# Altium schematic symbol library Schlib1.SchLib: 117 symbols
Pins are listed as number, name and electrical type; pins without a type are passive.

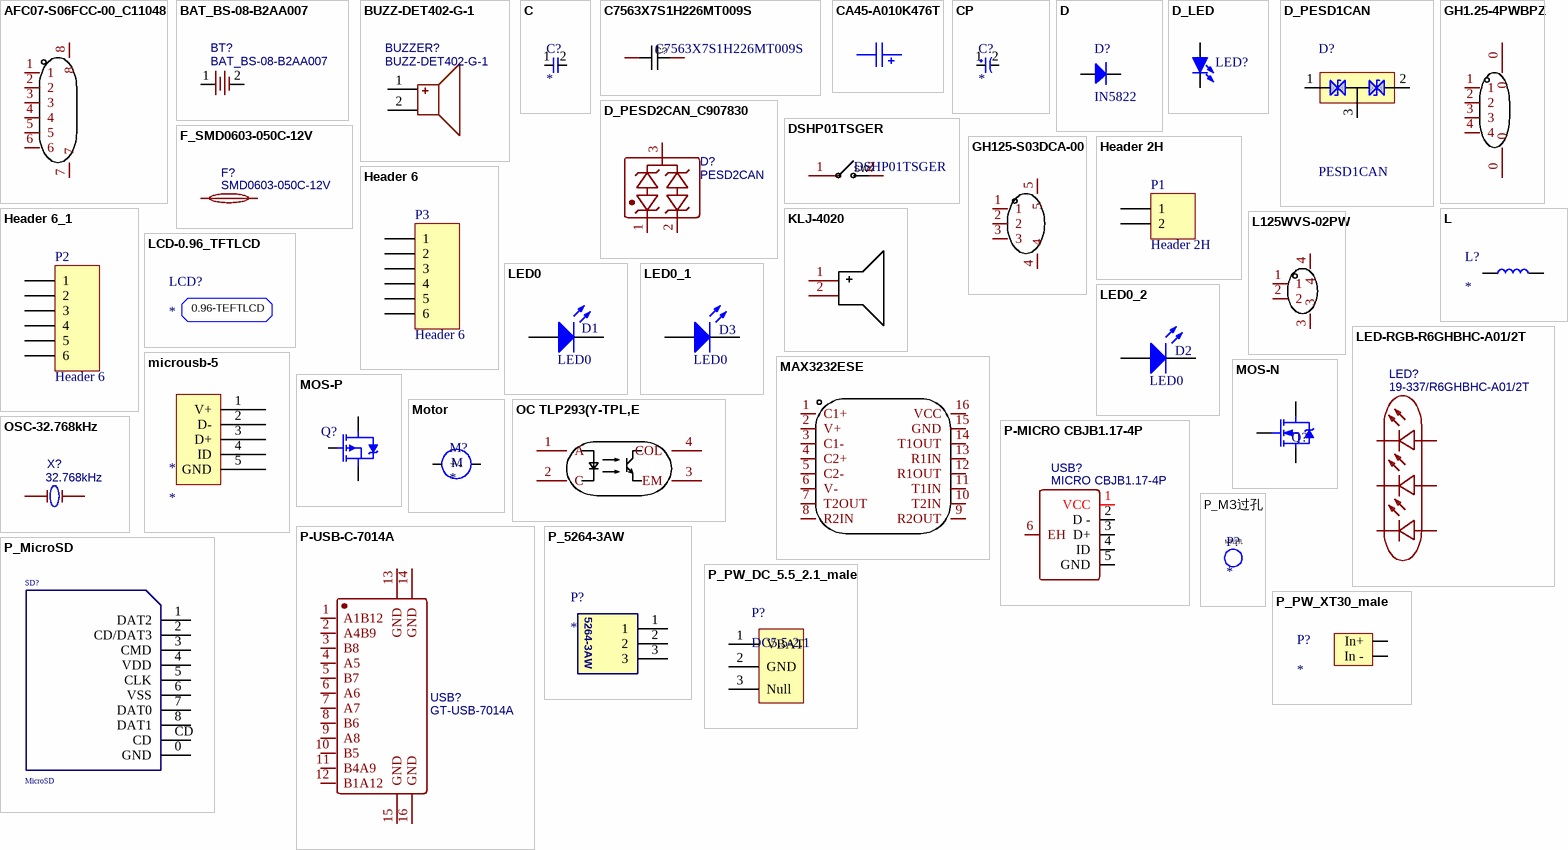
[diagram p0: symbols AFC07-S06FCC-00_C11048 to P_PW_XT30_male]

## AFC07-S06FCC-00_C11048
designator FPC?  (value not drawn)
Manufacturer: JS(钜硕电子); Symbol: FPC 0.5MM 6P Pull type H2.0mm Under the next; Add into BOM: yes; Pitch: 0.5mm; Number of Contacts: 6P; Locking Feature: 抽屉式; FFC, FCB Thickness: 0.3mm; Name: AFC07-S06FCC-00; Device: AFC07-S06FCC-00_C11048; LCSC Part Name: 0.5mm P数:6P 抽屉式 下接; Supplier Part: C11048; Manufacturer Part: AFC07-S06FCC-00; Supplier Footprint: SMD,P=0.5mm; JLCPCB Part Class: Extended Part; Datasheet: https://atta.szlcsc.com/upload/public/pdf/source/20190717/C405328_807FA67B3F1B55207D2BA590F8028B61.pdf; Supplier: LCSC; Convert to PCB: yes; Mounting Type: 卧贴; Contact Type: 下接; Height Above Board: 2mm
footprint FPC-SMD_P0.50-6P_LSSJ-H2.0-6P
3D model FPC-SMD_P0.50-6P_LSSJ-L8.6-W5.4-H2.0-6P
pins: 1, 2, 3, 4, 5, 6, 7, 8

## BAT_BS-08-B2AA007
designator BT?
BOM_Manufacturer: MYOUNG(美阳); Contributor: LCSC; BOM_Supplier: LCSC; BOM_Supplier Part: C964784; BOM_Manufacturer Part: BS-08-B2AA007; BOM_JLCPCB Part Class: Extended Part; spicePre: B; spiceSymbolName: BS-08-B2AA007
footprint BAT-SMD_BS-08-B2BA004
pins: 1, 2

## BUZZ-DET402-G-1
designator BUZZER?
BOM_Manufacturer: FUET(福声科技); BOM_Manufacturer Part: FUET-1580-12; Contributor: LCSC; BOM_Supplier: LCSC; BOM_Supplier Part: C2690508; BOM_JLCPCB Part Class: Extended Part; spicePre: B; spiceSymbolName: FUET-1580-12
footprint DET402-G-1
pins: 1, 2

## C
designator C?
pins: 1 "Supply Voltage", 2 "Supply Voltage"

## C7563X7S1H226MT009S
designator C?
电容22uF ±20% 50V; Manufacturer: TDK; Name: 22uF; Add into BOM: yes; Value: 22uF; Temperature Coefficient: X7S; Symbol: C7563X7S1H226MT009S; Device: C7563X7S1H226MT009S; LCSC Part Name: 22uF ±20% 50V; Supplier Part: C508864; Manufacturer Part: C7563X7S1H226MT009S; Supplier Footprint: 3025; JLCPCB Part Class: Extended Part; Datasheet: https://atta.szlcsc.com/upload/public/pdf/source/20191108/C445712_D1F852F93ABDD3ED8B3146A3596EBE59.pdf; Supplier: LCSC; Convert to PCB: yes; Tolerance: ±20%; Voltage Rated: 50V
footprint CAP-SMD_L7.5-W6.3
3D model CAP-SMD_L7.5-W6.3
pins: 1, 2

## CA45-A010K476T
designator C?  (value not drawn)
Manufacturer: 湘怡中元/湘江; Name: 47uF; Add into BOM: yes; Value: 47uF; Tolerance: ±10%; Rated Voltage: 10V; Equivalent Series Resistance(ESR): 2Ω@100kHz; Symbol: CA45-A010K476T; Device: CA45-A010K476T; LCSC Part Name: 47uF ±10% 10V; Supplier Part: C127069; Manufacturer Part: CA45-A010K476T; Supplier Footprint: CASE-A-3216; JLCPCB Part Class: Extended Part; Datasheet: https://atta.szlcsc.com/upload/public/pdf/source/20181017/C127069_BC3AE869F8CE910D5EF82C163F68D29E.pdf; Supplier: LCSC; Convert to PCB: yes; Operating Temperature: -55℃~+125℃
footprint CASE-A_3216
3D model CASE-A_L3.2-W1.6-H1.6
pins: 1, 2

## CP
designator C?
极性电容 / 多为大容量铝电解
pins: 1 "Supply Voltage", 2 "Supply Voltage"

## D
designator D?, comment IN5822
Default Diode; Published: 8-Jun-2000; LatestRevisionDate: 17-Jul-2002; LatestRevisionNote: Re-released for DXP Platform.; PackageVersion: Sep-1996; PackageReference: SMC; Publisher: Altium Limited; PackageDescription: DO-214-AB/SMC; 2 C-Bend Leads; Body 7.9 x 5.9 mm, inc. leads (LxW); Code_JEDEC: DO-214-AB
simulation model DIODE (Diode)
signal-integrity model Diode
footprint SMB (DO-214-AA/SMB; 2 C-Bend Leads; Body 5.3 x 3.6 mm, inc. leads (LxW))
pins: 1 A, 2 K

## D_LED
designator LED?
贴片LED; 版权归属: 黎明电子style; BOM名称: 贴片LED; 学习资源: https://lmdzstyle.taobao.com/
footprint LED 0603W (白色0603LED)
footprint LED 0603R (红色0603LED)
footprint LED 0603B (蓝色0603LED)
footprint LED 0603G (绿色0603LED)
footprint LED 0603Y (黄色0603LED)
footprint LED 0805G (绿色0805LED)
footprint PCBComponent_1
footprint LED 0805B (蓝色0805LED)
footprint LED 0805Y (黄色0805LED)
footprint LED 3528 (白色3528LED)
footprint LED 1206G (绿色1206LED)
footprint LED 5730-V (紫色5730LED)
footprint LED 1206Y (黄色1206LED)
footprint LED 0805W (白色0805LED)
footprint LED 1206B (蓝色1206LED)
footprint LED 1206W (白色1206LED)
footprint LED 1206R (红色1206LED)
pins: 1 A, 2 K

## D_PESD1CAN
designator D?, comment PESD1CAN
pins: 1 cathode 1, 2 cathode 2, 3 GND

## D_PESD2CAN_C907830
designator D?, comment PESD2CAN
BOM_Manufacturer: TECH PUBLIC; Contributor: LCSC; BOM_Supplier: LCSC; BOM_Supplier Part: C907830; BOM_Manufacturer Part: PESD2CAN; BOM_JLCPCB Part Class: Extended Part; spicePre: D; spiceSymbolName: PESD2CAN_C907830
footprint SOT-23-3_L2.9-W1.3-P1.90-LS2.4-BR
pins: 1, 2, 3

## DSHP01TSGER
designator SW?
1.27mm开关; Manufacturer: 康深; Add into BOM: yes; Name: DSHP01TSGER; Symbol: DSHP01TSGER; Device: DSHP01TSGER; LCSC Part Name: 1位单PIN 1.27mm间距贴片型 KE拨码开关 编码开关; Supplier Part: C3293141; Manufacturer Part: DSHP01TSGER; Supplier Footprint: SMD,2.9x5.4mm; JLCPCB Part Class: Extended Part; Datasheet: https://atta.szlcsc.com/upload/public/pdf/source/20220713/BDDC0447A52B6A23E8804DA200FD4C7C.pdf; Supplier: LCSC; Convert to PCB: yes
footprint SW-SMD_DSHP01TSGER
3D model SW-SMD_DSHP01TSGER
pins: 1, 2

## F_SMD0603-050C-12V
designator F?, comment SMD0603-050C-12V
BOM_Manufacturer: BNstar(比诺星); Contributor: LCSC; BOM_Supplier: LCSC; BOM_Supplier Part: C2760256; BOM_Manufacturer Part: SMD0603-050C-12V; BOM_JLCPCB Part Class: Extended Part; spicePre: F; spiceSymbolName: SMD0603-050C-12V
footprint F0603
pins: 1, 2

## GH1.25-4PWBPZ
designator U?  (value not drawn)
Manufacturer: BOOMELE(博穆精密); Add into BOM: yes; Name: GH1.25-4PWBPZ; Symbol: GH1.25-4PWBPZ; Device: GH1.25-4PWBPZ; LCSC Part Name: GH1.25-4P卧贴编带; Supplier Part: C2829253; Manufacturer Part: GH1.25-4PWBPZ; Supplier Footprint: -; JLCPCB Part Class: Extended Part; Datasheet: https://atta.szlcsc.com/upload/public/pdf/source/20211125/08A09A4909F58AF780B71FE423A00F7E.pdf; Supplier: LCSC; Convert to PCB: yes
footprint CONN-SMD_GH1.25-4PWBPZ
3D model CONN-SMD_GH1.25-4PWBPZ
pins: 0, 0, 1, 2, 3, 4

## GH125-S03DCA-00
designator X?  (value not drawn)
Manufacturer: JS(钜硕电子); Add into BOM: yes; Pitch: 1.25mm; Pins Structure: 1x3P; Number of PINs Per Row: 3; Gender: 公型插针; Current Rating (Max): 1A; Name: GH125-S03DCA-00; Symbol: GH125-S03DCA-00; Device: GH125-S03DCA-00; LCSC Part Name: GH1.25卧式贴片 带扣; Supplier Part: C2886766; Manufacturer Part: GH125-S03DCA-00; Supplier Footprint: SMD,P=1.25mm; JLCPCB Part Class: Extended Part; Datasheet: https://atta.szlcsc.com/upload/public/pdf/source/20210818/CD11791E5ED3EDF45A7009E9C8A2BD4C.pdf; Supplier: LCSC; Convert to PCB: yes; Reference Series: -; Number of Rows: 1; Row Spacing: -; Mounting Style: 卧贴; Operating Temperature Range: -25℃~+85℃
footprint CONN-SMD_3P-P1.25_JUSHUO_GH125-S03DCA-00
3D model CONN-SMD_3P-P1.25_JUSHUO_GH125-S03DCA-00
pins: 1, 2, 3, 4, 5

## Header 2H
designator P1
Header, 2-Pin, Right Angle; LatestRevisionDate: 17-Jul-2002; LatestRevisionNote: Re-released for DXP Platform.; Publisher: Altium Limited
signal-integrity model Connector
footprint P-PH2.0-WI-2P (长：5.9mm，宽：6mm，高：4.7mm)
pins: 1, 2

## Header 6
designator P3
Header, 6-Pin; LatestRevisionDate: 17-Jul-2002; LatestRevisionNote: Re-released for DXP Platform.; Publisher: Altium Limited
signal-integrity model Connector
footprint P-PH2.0-WI-6P (长：13.9mm，宽：6mm，高：4.7mm)
pins: 1, 2, 3, 4, 5, 6

## Header 6_1
designator P2, comment Header 6
Header, 6-Pin; LatestRevisionDate: 17-Jul-2002; LatestRevisionNote: Re-released for DXP Platform.; Publisher: Altium Limited
signal-integrity model Connector
footprint BM06B-GHS-TBT
pins: 1, 2, 3, 4, 5, 6

## KLJ-4020
designator BUZZER?  (value not drawn)
Manufacturer: KELIKING(凯丽金); Name: 4kHz; Add into BOM: yes; Rated Voltage: 3V; Operating Voltage: 2V~4V; Current Consumption: 100mA; Value: 4kHz; Sound Pressure Level (SPL): 73dB@10cm; Symbol: KLJ-4020; Device: KLJ-4020; LCSC Part Name: 贴片蜂鸣器; Supplier Part: C556936; Manufacturer Part: KLJ-4020; Supplier Footprint: SMD,4x4mm; JLCPCB Part Class: Extended Part; Datasheet: https://atta.szlcsc.com/upload/public/pdf/source/20200519/C556936_56209A4E02A9DC2ACA23224C4D5F7090.pdf; Supplier: LCSC; Convert to PCB: yes; Oscillator Circuit: -; Technology Type: -; Diameter (φD): -; Length: 4mm; Width: 4mm; Height: 2mm; Operating Temperature: -30℃~+70℃
footprint BUZ-SMD_L4.0-W4.0-P3.50-L
3D model BUZ-SMD_2P-L4.0-W4.0-H2.0
pins: 1 +, 2 -

## L
designator L?
INDUCTOR
footprint AL0204 (9*2*4mm（脚距，直径，长度）)
footprint AL0204_V (3*2*4mm（脚距，直径，长度）)
footprint AL0307 (11*3*7mm（脚距，直径，长度）)
footprint AL0307_V (3.5*3*7mm（脚距，直径，长度）)
footprint AL0410 (15*4*10.5mm（脚距，直径，长度）)
footprint AL0410_V (5*4*10.5mm（脚距，直径，长度）)
footprint AL0510 (16*5*10.5mm（脚距，直径，长度）)
footprint AL0510_V (6*5*10.5mm（脚距，直径，长度）)
footprint CD31 (3.5*3*1mm（长宽高）)
footprint CD32 (3.5*3*2mm（长宽高）)
footprint CD42 (4.5*4*2mm（长宽高）)
footprint CD43 (4.5*4*3.2mm（长宽高）)
footprint CD52 (5.8*5.2*3mm（长宽高）)
footprint CD53 (5.8*5.2*3.5mm（长宽高）)
footprint CD54 (5.8*5.2*4.5mm（长宽高）)
footprint CD75 (7.8*7*5mm（长宽高）)
footprint CD104 (10*9*4mm（长宽高）)
footprint CD105 (10*9*5.4mm（长宽高）)
footprint CD106 (10*9*6.5mm（长宽高）)
footprint CDRH73 (7.3*7.3*3.4mm（长宽高）)
footprint CDRH74 (7.3*7.3*4.5mm（长宽高）)
footprint CDRH124 (12*12*4.5mm（长宽高）)
footprint CDRH125 (12*12*5mm（长宽高）)
footprint CDRH127 (12*12*8mm（长宽高）)
footprint CDRH129 (12*12*9.5mm（长宽高）)
footprint L 0630 (一体化成型电感)
footprint NR3015 (3mm*3mm*1.5mm(长*宽*高）)
footprint PK0406 (2*5*8mm(脚距，直径，高）)
footprint PK0608 (2.5*7*10mm(脚距，直径，高）)
footprint PK0810 (5*9*12mm(脚距，直径，高）)
footprint PK0912 (6*10*14mm(脚距，直径，高）)
footprint PK1012 (6*11*14mm(脚距，直径，高）)
footprint PK1415 (7.5*15*17mm(脚距，直径，高）)
footprint PK1618 (12.5*17*20mm(脚距，直径，高）)
footprint PK1818 (15*19*20mm(脚距，直径，高）)
footprint 0402L (小功率贴片电感)
footprint 0603L (小功率贴片电感)
footprint 0630L (一体化成型电感)
footprint 0805L (小功率贴片电感)
footprint 1210L (小功率贴片电感)
footprint Model Name (Model Description)
footprint 1806L (小功率贴片电感)
footprint 1812L (小功率贴片电感)
pins: 1, 2

## L125WVS-02PW
designator CN?  (value not drawn)
Manufacturer: DEALON(德艺隆); Add into BOM: yes; Pitch: 1.25mm; Pins Structure: 1x2P; Number of PINs Per Row: 2; Gender: 公型插针; Current Rating (Max): 1A; Name: L125WVS-02PW; Symbol: L125WVS-02PW; Device: L125WVS-02PW; LCSC Part Name: 1.25mm 1x2P 卧贴 GH1.25间距卧式贴片 2P 连接器; Supplier Part: C2998790; Manufacturer Part: L125WVS-02PW; Supplier Footprint: SMD,P=1.25mm; JLCPCB Part Class: Extended Part; Datasheet: https://atta.szlcsc.com/upload/public/pdf/source/20220425/50B09E6409C3A2782C6D65104D18E34A.pdf; Supplier: LCSC; Convert to PCB: yes; Number of Rows: 1; Mounting Style: 卧贴; Operating Temperature Range: -40℃~+110℃
footprint CONN-SMD_2P-P1.25_DELON_L125WVS-02PW
3D model CONN-SMD_2P-P1.25_DELON_L125WVS-02PW
pins: 1, 2, 3, 4

## LCD-0.96_TFTLCD
designator LCD?
footprint TFTLCD-0.96-80*160
text: 0.96-TEFTLCD

## LED0
designator D1
Typical INFRARED GaAs LED; Published: 8-Jun-2000; LatestRevisionDate: 08-Jul-2005; LatestRevisionNote: Mech Layer 1 removed.; PackageReference: LED-0; Publisher: Altium Limited; PackageDescription: LED; 2 Leads
simulation model LED0 (Diode)
footprint LED 0805 (红色0805LED)
pins: 1 A, 2 K

## LED0_1
designator D3, comment LED0
Typical INFRARED GaAs LED; Published: 8-Jun-2000; LatestRevisionDate: 08-Jul-2005; LatestRevisionNote: Mech Layer 1 removed.; PackageReference: LED-0; Publisher: Altium Limited; PackageDescription: LED; 2 Leads
simulation model LED0 (Diode)
footprint LED 0805 (红色0805LED)
pins: 1 A, 2 K

## LED0_2
designator D2, comment LED0
Typical INFRARED GaAs LED; Published: 8-Jun-2000; LatestRevisionDate: 08-Jul-2005; LatestRevisionNote: Mech Layer 1 removed.; PackageReference: LED-0; Publisher: Altium Limited; PackageDescription: LED; 2 Leads
simulation model LED0 (Diode)
footprint LED 0805 (红色0805LED)
pins: 1 A, 2 K

## LED-RGB-R6GHBHC-A01/2T
designator LED?, comment 19-337/R6GHBHC-A01/2T
C264519; BOM_Manufacturer: Everlight Elec; Contributor: LCSC; BOM_Supplier: LCSC; BOM_Supplier Part: C264519; BOM_Manufacturer Part: 19-337/R6GHBHC-A01/2T; BOM_JLCPCB Part Class: Extended Part; spicePre: L; spiceSymbolName: 19-337/R6GHBHC-A01/2T
footprint LED-ARRAY-SMD_6P-L1.6-W1.6-TL
pins: 1 -B, 2 -R, 3 -G, 4 +B, 5 +R, 6 +G

## MAX3232ESE
designator U6  (value not drawn)
RS232转换芯片; Manufacturer: UMW(广东友台半导体); Add into BOM: yes; Name: MAX3232ESE; Symbol: MAX3232ESE; Device: MAX3232ESE; LCSC Part Name: MAX3232ESE; Supplier Part: C2904738; Manufacturer Part: MAX3232ESE; Supplier Footprint: SOP-16; JLCPCB Part Class: Extended Part; Datasheet: https://atta.szlcsc.com/upload/public/pdf/source/20220325/F1EFC1CE5DFDF5432C655A6CD0D8EF2A.pdf; Supplier: LCSC; Convert to PCB: yes
footprint SOP-16_L9.9-W3.9-P1.27-LS6.0-BL
3D model SOP-16_L9.9-W3.9-P1.27-LS6.0-BL
pins: 1 C1+, 2 V+, 3 C1-, 4 C2+, 5 C2-, 6 V-, 7 T2OUT, 8 R2IN, 9 R2OUT, 10 T2IN, 11 T1IN, 12 R1OUT, 13 R1IN, 14 T1OUT, 15 GND, 16 VCC

## microusb-5
designator *
footprint microusb-5
pins: 1 V+, 2 D-, 3 D+, 4 ID, 5 GND

## MOS-N
designator Q?
N沟道场效应管
footprint SOT23
pins: D, G, S

## MOS-P
designator Q?
P沟道场效应管
pins: D, G, S

## Motor
designator M?
pins: 29 +, 30 -
text: M

## OC TLP293(Y-TPL,E
designator OC?, comment TLP293(Y-TPL,E  (value not drawn)
C194122; Manufacturer: TOSHIBA(东芝); Add into BOM: yes; Input voltage type: DC; Output Type: 光电三极管; Number of Outputs: 1; Forward Voltage: 1.25V; Output Current: 50mA; Receiving End Voltage: 80V; Collector-Emitter Saturation Voltage (Vce(sat)@Ic,IF): 300mV@2.4mA,8mA; Rise time: 2us@2mA,100Ω; Fall time: 3us@2mA,100Ω; Isolation Voltage(rms): 3.75kV; Name: TLP293(Y-TPL,E; Symbol: TLP293(Y-TPL,E; Device: TLP293(Y-TPL,E; LCSC Part Name: TLP293(Y-TPL,E; Supplier Part: C194122; Manufacturer Part: TLP293(Y-TPL,E; Supplier Footprint: SOP-4; JLCPCB Part Class: Extended Part; Datasheet: https://atta.szlcsc.com/upload/public/pdf/source/20180629/C194122_DED1EA08415CD9D71B3300DA4044A311.pdf; Supplier: LCSC; Convert to PCB: yes; Reverse Voltage: -; Operating Temperature: -55℃~+125℃
footprint SOP-4_L4.4-W2.8-P1.27-LS7.0-BR
3D model SOP-4_L2.7-W4.6-H2.1-LS7.0-P1.27
pins: 1 A, 2 C, 3 EM, 4 COL

## OSC-32.768kHz
designator X?, comment 32.768kHz
负载为12.5pF; BOM_Manufacturer Part: X206032768KGA2SC; BOM_Manufacturer: YXC; nameAlias: Frequency; BOM_Supplier: LCSC; BOM_Supplier Part: C13712; BOM_JLCPCB Part Class: Extended Part; spicePre: X; spiceSymbolName: X206032768KGA2SC
footprint OSC-TH_BD2.0-P0.70-D0.3
pins: 1 OSC1, 2 OSC2

## P-MICRO CBJB1.17-4P
designator USB?, comment MICRO CBJB1.17-4P
BOM_Manufacturer: SHOU HAN; Contributor: LCSC; BOM_Supplier: LCSC; BOM_Supplier Part: C456009; BOM_Manufacturer Part: MICRO CBJB1.17-4P; BOM_JLCPCB Part Class: Extended Part; spicePre: U; spiceSymbolName: MICRO CBJB1.17-4P
footprint P-MINI-USB-SMD_CBJB1.17-4P
pins: 1 VCC, 2 D -, 3 D+, 4 ID, 5 GND, 6 EH

## P-USB-C-7014A
designator USB?, comment GT-USB-7014A
BOM_Manufacturer: G-Switch(品赞); Contributor: LCSC; BOM_Supplier: LCSC; BOM_Supplier Part: C963371; BOM_Manufacturer Part: GT-USB-7014A; BOM_JLCPCB Part Class: Extended Part; spicePre: U; spiceSymbolName: GT-USB-7014A
pins: 1 A1B12, 2 A4B9, 3 B8, 4 A5, 5 B7, 6 A6, 7 A7, 8 B6, 9 A8, 10 B5, 11 B4A9, 12 B1A12, 13 GND, 14 GND, 15 GND, 16 GND

## P_5264-3AW
designator P?
footprint P CONN-TH_5264-3AW
pins: 1, 2, 3
text: 5264-3AW

## P_M3过孔
designator P?
footprint P_M3过孔
text: M3过孔

## P_MicroSD
designator SD?, comment MicroSD
footprint P_TF Card
pins: 0 GND, 1 DAT2 "片选/负有效", 2 CD/DAT3 "数据输入", 3 CMD "地", 4 VDD, 5 CLK, 6 VSS, 7 DAT0, 8 DAT1, CD

## P_PW_DC_5.5_2.1_male
designator P?, comment DC5.5-2.1
footprint P_DC-050-5.5*2.1_贴片 (5.5*2.1)
pins: 1 VBAT, 2 GND, 3 Null

## P_PW_XT30_male
designator P?
XT30_pw_m / XT30母头电源输入
footprint XT30
pins: 1 In+, 2 In -

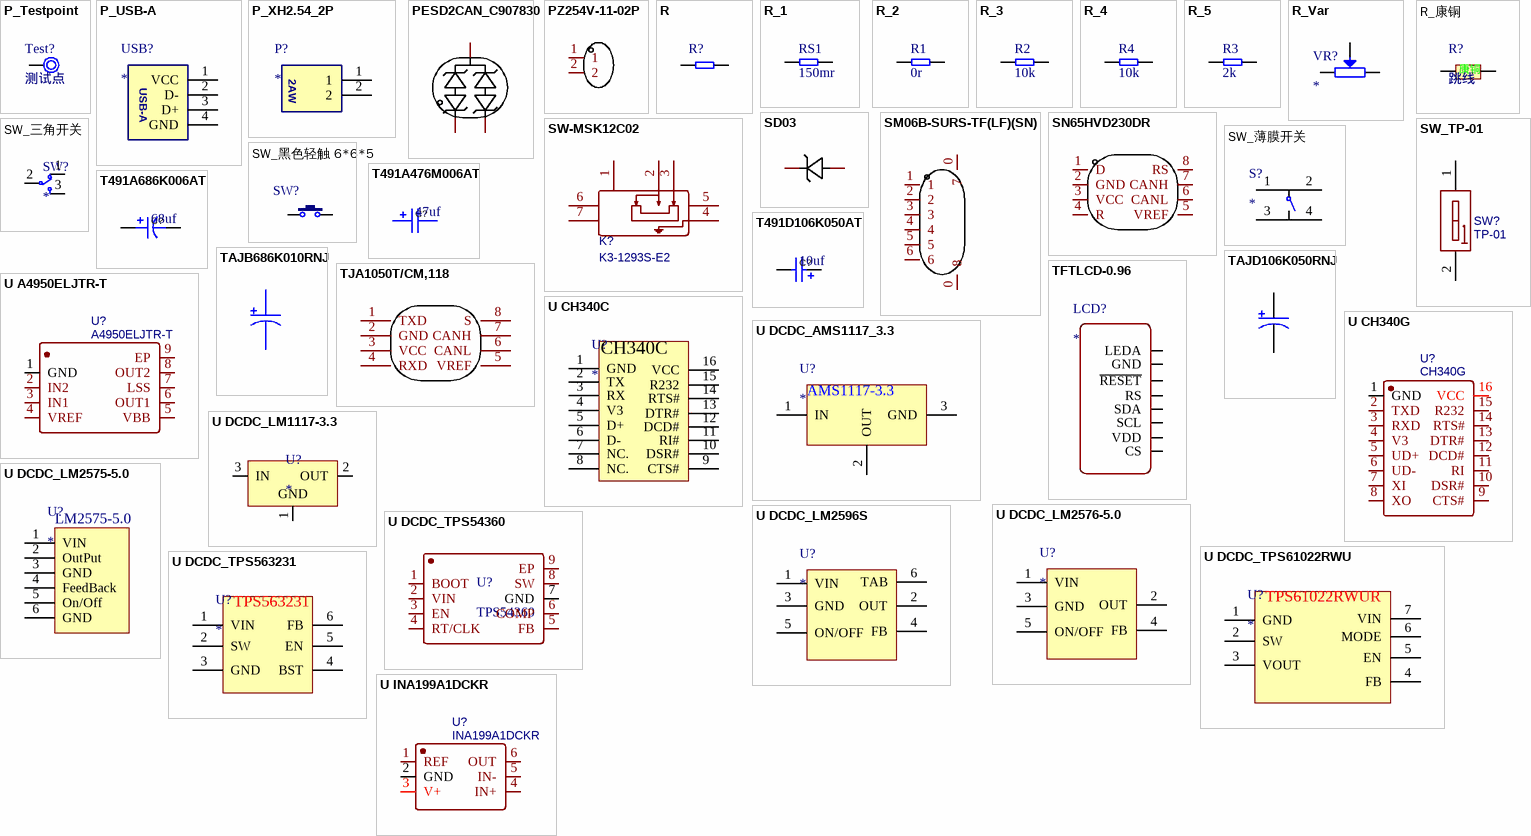
[diagram p1: symbols P_Testpoint to U INA199A1DCKR]

## P_Testpoint
designator Test?, comment 测试点
pins: 1

## P_USB-A
designator USB?
footprint P-USB-A-SMD_905-761A2022S10203 (C2763021)
pins: 1 VCC, 2 D-, 3 D+, 4 GND

## P_XH2.54_2P
designator P?
footprint P-XH2/2.54mm/90
pins: 1, 2
text: 2AW

## PESD2CAN_C907830
designator D?  (value not drawn)
PESD2CAN静电esd保护件; Manufacturer: TECH PUBLIC(台舟); Add into BOM: yes; Name: PESD2CAN; Symbol: PESD2CAN_C907830; Device: PESD2CAN_C907830; LCSC Part Name: PESD2CAN; Supplier Part: C907830; Manufacturer Part: PESD2CAN; Supplier Footprint: SOT23-3; JLCPCB Part Class: Extended Part; Datasheet: https://atta.szlcsc.com/upload/public/pdf/source/20201020/C907830_A4D1E6D0B6BD1253ACE8F8FC946B1D04.pdf; Supplier: LCSC; Convert to PCB: yes
footprint SOT-23-3_L2.9-W1.3-P1.90-LS2.4-BR
3D model SOT-23-3P_L2.9-W1.3-H1.0-LS2.4-P0.95
pins: 1, 2, 3

## PZ254V-11-02P
designator H?  (value not drawn)
Manufacturer: XFCN(兴飞); Add into BOM: yes; Pitch: 2.54mm; Pin Structure: 1x2P; Circluar Pins/Square Pins: 方针; Name: PZ254V-11-02P; Symbol: PZ254V-11-02P; Device: PZ254V-11-02P; LCSC Part Name: 2.54mm 1x2P 直插 方针; Supplier Part: C492401; Manufacturer Part: PZ254V-11-02P; Supplier Footprint: 插件,P=2.54mm; JLCPCB Part Class: Extended Part; Datasheet: https://atta.szlcsc.com/upload/public/pdf/source/20200309/C492401_A812433581A9B211A7FFA413ADDFF0E5.pdf; Supplier: LCSC; Convert to PCB: yes; Number of Rows: 单排; Number of Pins: 2P; Row Spacing: -; Mounting Type: 直插; Current Rating (Max): -; Voltage Rating (Max): -; Length of Mating Pin: 6mm; Insulation Height: 2.5mm; Length of End Connection Pin: 3mm; Contact Material: 黄铜; Contact Plating: -; Operating Temperature Range: -40℃~+105℃; Color: 黑色
footprint HDR-TH_2P-P2.54-V-M
3D model HDR2.54-M-LI-1X2P
pins: 1, 2

## R
designator R?
贴片电阻; 版权归属: 黎明电子style; BOM名称: 贴片电阻; 学习资源: https://lmdzstyle.taobao.com/
footprint R 0805_M (1/8W贴片电阻)
pins: 1, 2

## R_1
designator RS1, comment 150mr
贴片电阻; 版权归属: 黎明电子style; BOM名称: 贴片电阻; 学习资源: https://lmdzstyle.taobao.com/
footprint R1206_M
pins: 1, 2

## R_2
designator R1, comment 0r
贴片电阻; 版权归属: 黎明电子style; BOM名称: 贴片电阻; 学习资源: https://lmdzstyle.taobao.com/
footprint R0603_M
pins: 1, 2

## R_3
designator R2, comment 10k
贴片电阻; 版权归属: 黎明电子style; BOM名称: 贴片电阻; 学习资源: https://lmdzstyle.taobao.com/
footprint R0603_M
pins: 1, 2

## R_4
designator R4, comment 10k
贴片电阻; 版权归属: 黎明电子style; BOM名称: 贴片电阻; 学习资源: https://lmdzstyle.taobao.com/
footprint R0603_M
pins: 1, 2

## R_5
designator R3, comment 2k
贴片电阻; 版权归属: 黎明电子style; BOM名称: 贴片电阻; 学习资源: https://lmdzstyle.taobao.com/
footprint R0603_M
pins: 1, 2

## R_Var
designator VR?
footprint 3296W
footprint 3362P
footprint 3362S
footprint 微调卧式蓝白电位器
pins: 1, 2, 3

## R_康铜
designator R?, comment 跳线
pins: 0, 1
text: 康铜

## SD03
designator D?  (value not drawn)
TVS3.3截止; Manufacturer: MDD; Symbol: SD03_C502526; Add into BOM: yes; Reverse Stand-Off Voltage (Vrwm): 3.3V; Breakdown Voltage: 4V; Peak Pulse Current (Ipp)@10/1000us: 20A; Maximum Clamping Voltage: 14V; Name: SD03; Device: SD03; LCSC Part Name: 单向TVS 3.3V截止 20A峰值脉冲; Supplier Part: C502526; Manufacturer Part: SD03; Supplier Footprint: SOD-323; JLCPCB Part Class: Extended Part; Datasheet: https://atta.szlcsc.com/upload/public/pdf/source/20200324/C502526_6D92D06B51C211BBF0D6BD94672586B0.pdf; Supplier: LCSC; Convert to PCB: yes
footprint SOD-323_L1.8-W1.3-LS2.5-RD
3D model SOD-323_L1.7-W1.3-H1.1-LS2.5
pins: 1 C, 2 A

## SM06B-SURS-TF(LF)(SN)
designator P?  (value not drawn)
Manufacturer: JST; Add into BOM: yes; Pitch: 0.8mm; Pins Structure: 1x6P; Number of PINs Per Row: 6; Gender: 公型插针; Current Rating (Max): 200mA; Name: SM06B-SURS-TF(LF)(SN); Symbol: SM06B-SURS-TF(LF)(SN); Device: SM06B-SURS-TF(LF)(SN); LCSC Part Name: 间距:0.8mm 1x6P 卧贴; Supplier Part: C495545; Manufacturer Part: SM06B-SURS-TF(LF)(SN); Supplier Footprint: SMD,P=0.8mm; JLCPCB Part Class: Extended Part; Datasheet: https://atta.szlcsc.com/upload/public/pdf/source/20200311/C495545_E72935403D1EB49F793AD89C21E66448.pdf; Supplier: LCSC; Convert to PCB: yes; Reference Series: -; Number of Rows: 1; Row Spacing: -; Mounting Style: 卧贴; Contact Material: 铜合金; Contact Plating: 锡; Operating Temperature Range: -25℃~+85℃
footprint CONN-SMD_SM06B-SURS-TF-LF-SN
3D model CONN-SMD_SM06B-SURS-TF(LF)(SN)
pins: 0 8, 0 7, 1, 2, 3, 4, 5, 6

## SN65HVD230DR
designator U?  (value not drawn)
can芯片vp230; Manufacturer: TI(德州仪器); Add into BOM: yes; Data Rate: 1Mbps; Supply Voltage: 3V~3.6V; Name: SN65HVD230DR; Symbol: SN65HVD230DR; Device: SN65HVD230DR; LCSC Part Name: 1Mbps 3V~3.6V; Supplier Part: C12084; Manufacturer Part: SN65HVD230DR; Supplier Footprint: SOIC-8; JLCPCB Part Class: Basic Part; Datasheet: https://atta.szlcsc.com/upload/public/pdf/source/20140508/1457707055452.pdf; Supplier: LCSC; Convert to PCB: yes; Type: 收发器
footprint SOIC-8_L4.9-W3.9-P1.27-LS6.0-BL
3D model SOIC-8_L4.9-W3.9-H1.7-LS6.0-P1.27
pins: 1 D, 2 GND, 3 VCC, 4 R, 5 VREF, 6 CANL, 7 CANH, 8 RS

## SW-MSK12C02
designator K?, comment K3-1293S-E2
BOM_Manufacturer: SHOU HAN; BOM_Manufacturer Part: MSK12C02; Contributor: LCSC; BOM_Supplier: LCSC; BOM_Supplier Part: C431540; BOM_JLCPCB Part Class: Extended Part; spicePre: S; spiceSymbolName: MSK12C02
footprint SW-TH_MSK12C02
pins: 1, 2, 3, 4, 5 4, 6 4, 7 4

## SW_TP-01
designator SW?, comment TP-01
BOM_Manufacturer: Yuandi; Contributor: LCSC; BOM_Supplier: LCSC; BOM_Supplier Part: C559164; BOM_Manufacturer Part: TP-01; BOM_JLCPCB Part Class: Extended Part; spicePre: S; spiceSymbolName: TP-01
footprint SW-SMD_2P-L2.8-W5.4-P1.27-LS8.5
pins: 1 A1, 2 A2

## SW_三角开关
designator SW?
pins: 1, 2, 3

## SW_薄膜开关
designator S?
pins: 1 "24V输入", 2 "24V输入", 3 "24V输入", 4 "24V输入"

## SW_黑色轻触 6*6*5
designator SW?, comment ZigReset  (value not drawn)
3x6轻触开关; 版权归属: 黎明电子style; BOM名称: 3x6轻触开关; 学习资源: https://lmdzstyle.taobao.com/
pins: 1, 2

## T491A476M006AT
designator C?, comment 47uf
47uF ±20% 6.3V / 钽电容; Manufacturer: KEMET(基美); Symbol: T491A476M006AT; Add into BOM: yes; Equivalent Series Resistance(ESR): 3.5Ω@100kHz; Name: 47uF; Device: T491A476M006AT; LCSC Part Name: 47uF ±20% 6.3V; Supplier Part: C116270; Manufacturer Part: T491A476M006AT; Supplier Footprint: CASE-A_3216; JLCPCB Part Class: Extended Part; Datasheet: https://atta.szlcsc.com/upload/public/pdf/source/20170712/C116270_1499827712763813370.pdf; Supplier: LCSC; Convert to PCB: yes; Value: 47uF; Tolerance: ±20%; Rated Voltage: 6.3V; Operating Temperature: -55℃~+125℃
footprint CAP-SMD_L3.2-W1.6
3D model CAP-SMD_L3.2-W1.6
pins: 1, 2

## T491A686K006AT
designator C?, comment 68uf
48uf坦电容; Manufacturer: KEMET(基美); Symbol: T491A686K006AT; Add into BOM: yes; Tolerance: ±10%; Rated Voltage: 6.3V; Equivalent Series Resistance(ESR): 4Ω; Name: 68uF; Device: T491A686K006AT; LCSC Part Name: 68uF ±10% 6.3V; Supplier Part: C1952895; Manufacturer Part: T491A686K006AT; Supplier Footprint: 1206; JLCPCB Part Class: Extended Part; Datasheet: https://atta.szlcsc.com/upload/public/pdf/source/20210416/95C0EC5B3581C9A90529545117ABEAC1.pdf; Supplier: LCSC; Convert to PCB: yes; Value: 68uF; Leakage Current(DCL): -; Ripple Current: -; Operating Temperature: -55℃~+125℃
footprint CAP-SMD_L3.2-W1.6-FD (48uf坦电容)
3D model CAP-SMD_L3.2-W1.6-FD
pins: 1, 2

## T491D106K050AT
designator C?, comment 10uf
10uF ±10% 50V  坦电容PESD2CAN; Manufacturer: KEMET(基美); Symbol: T491D106K050AT; Add into BOM: yes; Equivalent Series Resistance(ESR): 800mΩ@100kHz; Name: 10uF; Device: T491D106K050AT; LCSC Part Name: 10uF ±10% 50V; Supplier Part: C117038; Manufacturer Part: T491D106K050AT; Supplier Footprint: CASE-D_7343; JLCPCB Part Class: Extended Part; Datasheet: https://atta.szlcsc.com/upload/public/pdf/source/20170712/C117038_1499827750045813408.pdf; Supplier: LCSC; Convert to PCB: yes; Value: 10uF; Tolerance: ±10%; Rated Voltage: 50V; Operating Temperature: -55℃~+125℃
footprint CAP-SMD_L7.3-W4.3-R-RD
3D model CASE-E_L7.3-W4.3-H4.1
pins: 1, 2

## TAJB686K010RNJ
designator C?  (value not drawn)
Manufacturer: Kyocera AVX; Name: 68uF; Add into BOM: yes; Value: 68uF; Tolerance: ±10%; Rated Voltage: 10V; Equivalent Series Resistance(ESR): 1.4Ω@100kHz; Symbol: TAJB686K010RNJ; Device: TAJB686K010RNJ; LCSC Part Name: 68uF ±10% 10V; Supplier Part: C111253; Manufacturer Part: TAJB686K010RNJ; Supplier Footprint: CASE-B-3528; JLCPCB Part Class: Extended Part; Datasheet: https://atta.szlcsc.com/upload/public/pdf/source/20181012/C111253_27A8DF51626E9E410784C1AEA8F932D2.pdf; Supplier: LCSC; Convert to PCB: yes; Operating Temperature: -55℃~+125℃
footprint CAP-SMD_L3.5-W2.8-R-RD
3D model CASE-B_L3.5-W2.8-H1.9
pins: 1, 2

## TAJD106K050RNJ
designator C?, comment 10uf  (value not drawn)
10uf坦电容; Manufacturer: Kyocera AVX; Symbol: TAJD106K050RNJ; Add into BOM: yes; Tolerance: ±10%; Rated Voltage: 50V; Equivalent Series Resistance(ESR): 800mΩ@100kHz; Name: 10uF; Device: TAJD106K050RNJ; LCSC Part Name: 10uF ±10% 50V; Supplier Part: C89596; Manufacturer Part: TAJD106K050RNJ; Supplier Footprint: CASE-D-7343; JLCPCB Part Class: Extended Part; Datasheet: https://atta.szlcsc.com/upload/public/pdf/source/20161207/1481104178218.pdf; Supplier: LCSC; Convert to PCB: yes; Value: 10uF; Operating Temperature: -55℃~+125℃
footprint CASE-D_7343
3D model CASE-D_L7.3-W4.3-H2.9
pins: 1, 2

## TFTLCD-0.96
designator LCD?
pins: 1 LEDA, 2 GND, 3 ~{RESET}, 4 RS, 5 SDA, 6 SCL, 7 VDD, 8 CS

## TJA1050T/CM,118
designator U?  (value not drawn)
can芯片; Manufacturer: NXP(恩智浦); Add into BOM: yes; Supply Voltage: 4.75V~5.25V; Supply Current: 50mA; Name: TJA1050T/CM,118; Symbol: TJA1050T/CM,118; Device: TJA1050T/CM,118; LCSC Part Name: 4.75V~5.25V; Supplier Part: C6952; Manufacturer Part: TJA1050T/CM,118; Supplier Footprint: SOIC-8; JLCPCB Part Class: Basic Part; Datasheet: https://atta.szlcsc.com/upload/public/pdf/source/20140411/1457707042917.pdf; Supplier: LCSC; Convert to PCB: yes; Type: 收发器
footprint SOIC-8_L5.0-W4.0-P1.27-LS6.0-BL
3D model SOIC-8_L4.9-W3.9-H1.7-LS6.0-P1.27
pins: 1 TXD, 2 GND, 3 VCC, 4 RXD, 5 VREF, 6 CANL, 7 CANH, 8 S

## U A4950ELJTR-T
designator U?, comment A4950ELJTR-T
A4950电机驱动芯片; BOM_Manufacturer: ALLEGRO; BOM_Supplier: LCSC; BOM_Manufacturer Part: A4950ELJTR-T; BOM_Supplier Part: C82404; BOM_JLCPCB Part Class: Extended Part; spicePre: U; spiceSymbolName: A4950ELJTR-T
footprint SOIC-8_L4.9-W3.9-P1.27-LS6.0-BL-EP
pins: 1 GND, 2 IN2, 3 IN1, 4 VREF, 5 VBB, 6 OUT1, 7 LSS, 8 OUT2, 9 EP

## U CH340C
designator U?
pins: 1 GND "24V输入", 2 TX "24V输入", 3 RX "24V输入", 4 V3 "24V输入", 5 D+ "24V输入", 6 D- "24V输入", 7 NC. "24V输入", 8 NC. "24V输入", 9 CTS# "24V输入", 10 DSR# "24V输入", 11 RI# "24V输入", 12 DCD# "24V输入", 13 DTR# "24V输入", 14 RTS# "24V输入", 15 R232 "24V输入", 16 VCC "24V输入"
text: CH340C

## U CH340G
designator U?, comment CH340G
BOM_Manufacturer: WCH; timeStamp: 1468327462; BOM_Supplier: LCSC; BOM_Manufacturer Part: CH340G; BOM_Supplier Part: C14267; BOM_JLCPCB Part Class: Extended Part; spicePre: U; spiceSymbolName: CH340G
footprint SOIC-16_L9.9-W3.9-P1.27-LS6.0-BL
pins: 1 GND, 2 TXD, 3 RXD, 4 V3, 5 UD+, 6 UD-, 7 XI, 8 XO, 9 CTS#, 10 DSR#, 11 RI, 12 DCD#, 13 DTR#, 14 RTS#, 15 R232, 16 VCC

## U DCDC_AMS1117_3.3
designator U?
pins: 1 IN, 2 OUT, 3 GND
text: AMS1117-3.3

## U DCDC_LM1117-3.3
designator U?
footprint LM1117
pins: 1 GND (power), 2 OUT (power), 3 IN (power)

## U DCDC_LM2575-5.0
designator U?
降压芯片
pins: 1 VIN, 2 OutPut, 3 GND, 4 FeedBack, 5 On/Off, 6 GND
text: LM2575-5.0

## U DCDC_LM2576-5.0
designator U?
pins: 1 VIN, 2 OUT, 3 GND, 4 FB, 5 ON/OFF

## U DCDC_LM2596S
designator U?
pins: 1 VIN, 2 OUT, 3 GND, 4 FB, 5 ON/OFF, 6 TAB

## U DCDC_TPS54360
designator U?, comment TPS54360
降转5
footprint SOP_8
pins: 1 BOOT, 2 VIN, 3 EN, 4 RT/CLK, 5 FB, 6 COMP, 7 GND, 8 SW, 9 EP

## U DCDC_TPS61022RWU
designator U?
pins: 1 GND "24V输入", 2 SW "24V输入", 3 VOUT "24V输入", 4 FB "24V输入", 5 EN "24V输入", 6 MODE "24V输入", 7 VIN "24V输入"
text: TPS61022RWUR

## U DCDC_TPS563231
designator U?
pins: 1 VIN "24V输入", 2 SW "24V输入", 3 GND "24V输入", 4 BST "24V输入", 5 EN "24V输入", 6 FB "24V输入"
text: TPS563231

## U INA199A1DCKR
designator U?, comment INA199A1DCKR
BOM_Manufacturer: TI; spicePre: X; BOM_Supplier: LCSC; BOM_Manufacturer Part: INA199A1DCKR; BOM_Supplier Part: C59135; BOM_JLCPCB Part Class: Extended Part; spiceSymbolName: INA199A1DCKR
footprint SC-70-6_L2.2-W1.3-P0.65-LS2.1-BR
pins: 1 REF, 2 GND, 3 V+, 4 IN+, 5 IN-, 6 OUT

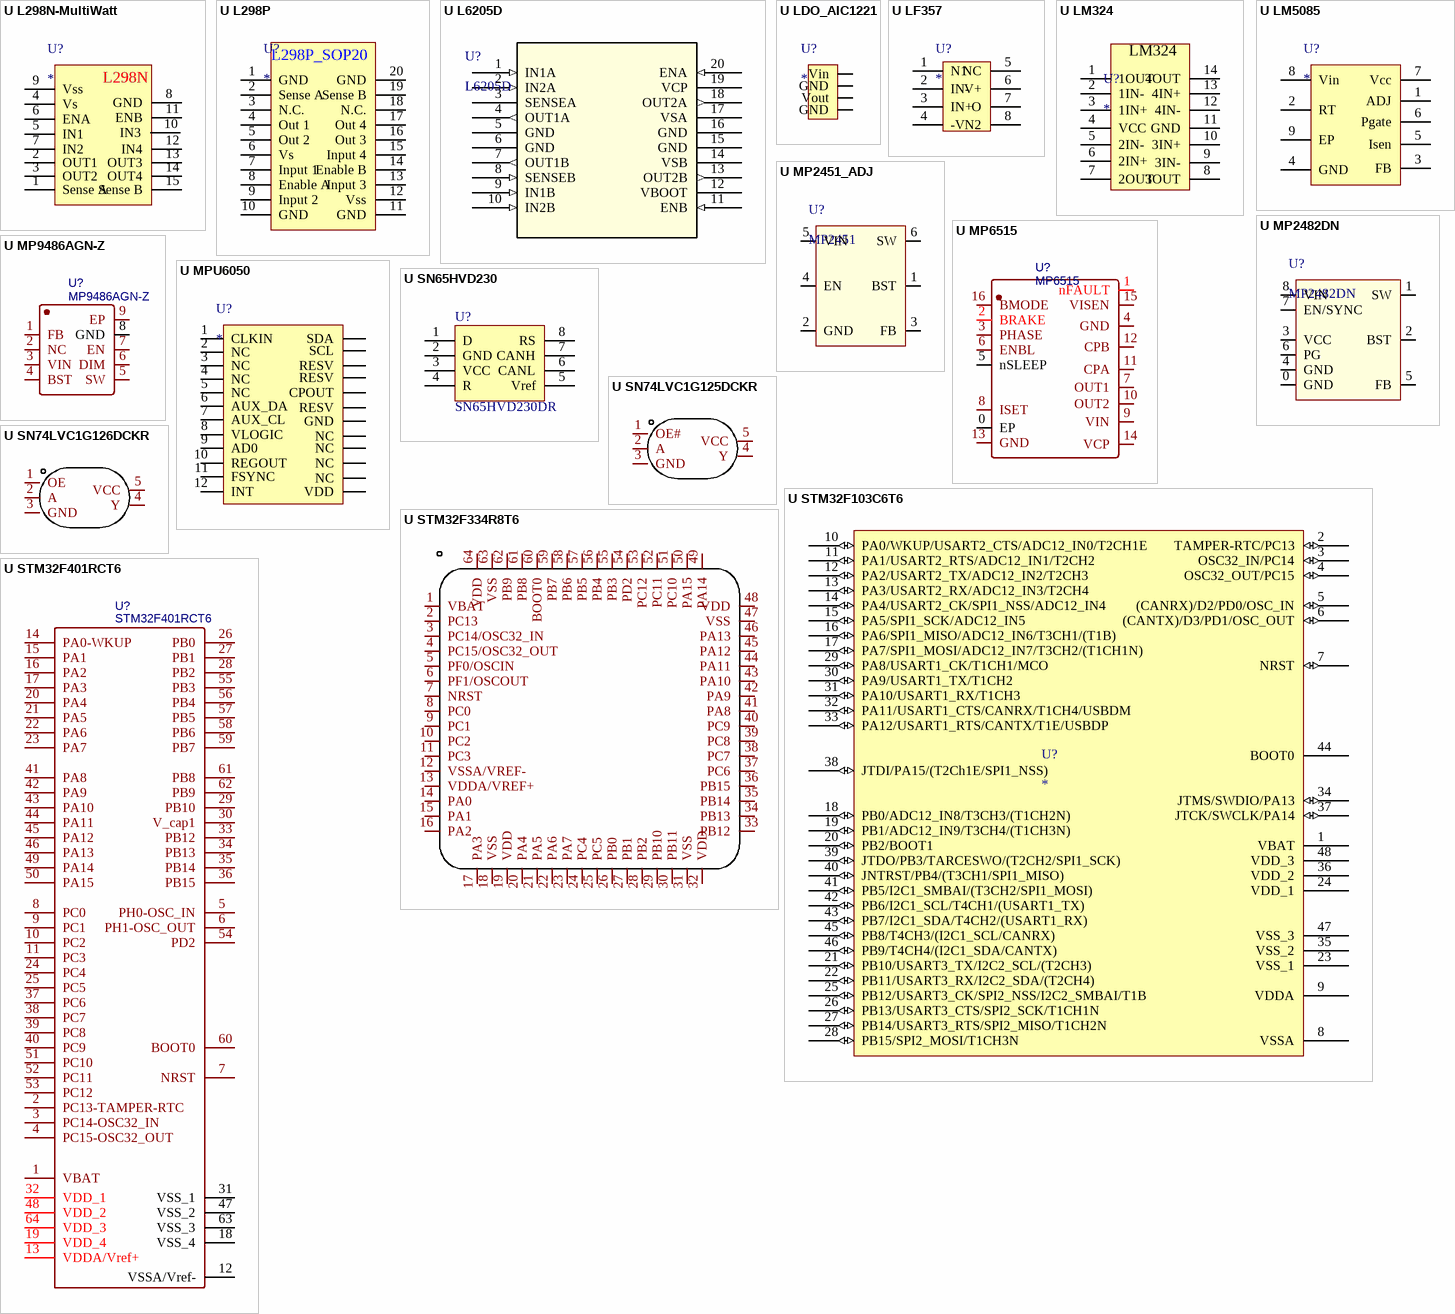
[diagram p2: symbols U L298N-MultiWatt to U STM32F401RCT6]

## U L298N-MultiWatt
designator U?
footprint L298N-MultiWatt
pins: 1 Sense A, 2 OUT1, 3 OUT2, 4 Vs "Supply Voltage", 5 IN1 "Supply Voltage", 6 ENA "Supply Voltage", 7 IN2 "Supply Voltage", 8 GND "Supply Voltage", 9 Vss "Supply Voltage", 10 IN3 "Supply Voltage", 11 ENB "Supply Voltage", 12 IN4 "Supply Voltage", 13 OUT3 "Supply Voltage", 14 OUT4 "Supply Voltage", 15 Sense B "Supply Voltage"
text: L298N

## U L298P
designator U?
pins: 1 GND, 2 Sense A, 3 N.C., 4 Out 1, 5 Out 2, 6 Vs, 7 Input 1, 8 Enable A, 9 Input 2, 10 GND, 11 GND, 12 Vss, 13 Input 3, 14 Enable B, 15 Input 4, 16 Out 3, 17 Out 4, 18 N.C., 19 Sense B, 20 GND
text: L298P_SOP20

## U L6205D
designator U?, comment L6205D
No Description Available; SourceLibrary: Updates_to_database_2020-11-02; Built_By: EMA_UL_Team; Vendor: STMicroelectronics; Manufacturer_Part_Number: L6205D; Copyright: Copyright (C) 2021 Accelerated Designs. All rights reserved; RefDes: RefDes; Type: DEV
footprint SO-20_STM
pins: 1 IN1A (in), 2 IN2A (in), 3 SENSEA (power), 4 OUT1A (out), 5 GND, 6 GND, 7 OUT1B (out), 8 SENSEB (in), 9 IN1B (in), 10 IN2B (in), 11 ENB (in), 12 VBOOT (power), 13 OUT2B (out), 14 VSB (power), 15 GND, 16 GND, 17 VSA (power), 18 OUT2A (out), 19 VCP (power), 20 ENA (in)

## U LDO_AIC1221
designator U?
pins: 1 Vin, 2 GND, 3 Vout, 4 GND

## U LF357
designator U?
pins: 1 N1 "24V输入", 2 IN- "24V输入", 3 IN+ "24V输入", 4 -V "24V输入", 5 NC "24V输入", 6 V+ "24V输入", 7 O "24V输入", 8 N2 "24V输入"

## U LM324
designator U?
pins: 1 1OUT "24V输入", 2 1IN- "24V输入", 3 1IN+ "24V输入", 4 VCC "24V输入", 5 2IN- "24V输入", 6 2IN+ "24V输入", 7 2OUT "24V输入", 8 3OUT "24V输入", 9 3IN- "24V输入", 10 3IN+ "24V输入", 11 GND "24V输入", 12 4IN- "24V输入", 13 4IN+ "24V输入", 14 4OUT "24V输入"
text: LM324

## U LM5085
designator U?
C79823
footprint MSOP-8_L3.0-W3.0-P0.65-LS5.0-BL-EP
pins: 1 ADJ, 2 RT, 3 FB, 4 GND, 5 Isen, 6 Pgate, 7 Vcc, 8 Vin, 9 EP

## U MP2451_ADJ
designator U?, comment MP2451
footprint SOT_23_6 (SOT-23/SC-74A; 5 Leads; Body 3.1 x 3 mm, inc. leads (LxW max))
pins: 1 BST, 2 GND, 3 FB, 4 EN, 5 VIN (power), 6 SW

## U MP2482DN
designator U?, comment MP2482DN
footprint SOIC_8_PAD
pins: 0 GND (power), 1 SW, 2 BST, 3 VCC (power), 4 GND (power), 5 FB, 6 PG, 7 EN/SYNC, 8 VIN (power)

## U MP6515
designator U?, comment MP6515
电机驱动; BOM_Manufacturer: FM富满; BOM_Manufacturer Part: XPD738BP; Contributor: LCSC; BOM_Supplier: LCSC; BOM_Supplier Part: C2937663; BOM_JLCPCB Part Class: Extended Part; spicePre: R; spiceSymbolName: XPD738BP
footprint TSSOP-16_L5.0-W4.4-P0.65-LS6.4-BL
pins: 0 EP, 1 nFAULT, 2 BRAKE, 3 PHASE, 4 GND, 5 nSLEEP, 6 ENBL, 7 OUT1, 8 ISET, 9 VIN, 10 OUT2, 11 CPA, 12 CPB, 13 GND, 14 VCP, 15 VISEN, 16 BMODE

## U MP9486AGN-Z
designator U?, comment MP9486AGN-Z
BOM_Manufacturer: MPS; Contributor: lcsc; BOM_Supplier: LCSC; BOM_Supplier Part: C404013; BOM_Manufacturer Part: MP9486AGN-Z; link: https://atta.szlcsc.comnull; BOM_JLCPCB Part Class: Extended Part; spicePre: U; spiceSymbolName: MP9486AGN-Z
footprint SOIC-8_L4.9-W3.9-P1.27-LS6.0-BL-EP3.1
pins: 1 FB, 2 NC, 3 VIN, 4 BST, 5 SW, 6 DIM, 7 EN, 8 GND, 9 EP

## U MPU6050
designator U?
pins: 1 CLKIN, 2 NC, 3 NC, 4 NC, 5 NC, 6 AUX_DA, 7 AUX_CL, 8 VLOGIC, 9 AD0, 10 REGOUT, 11 FSYNC, 12 INT, 13 VDD, 14 NC, 15 NC, 16 NC, 17 NC, 18 GND, 19 RESV, 20 CPOUT, 21 RESV, 22 RESV, 23 SCL, 24 SDA

## U SN65HVD230
designator U?, comment SN65HVD230DR
footprint SOIC127P600X175-8N
pins: 1 D, 2 GND, 3 VCC, 4 R, 5 Vref, 6 CANL, 7 CANH, 8 RS
2 alternate drawings of the same symbol

## U SN74LVC1G125DCKR
designator U?, comment SN74LVC1G126DCKR  (value not drawn)
Manufacturer: TI(德州仪器); Add into BOM: yes; Supply Voltage: 1.65V~5.5V; output type: 三态; Current-OutputLow: 32mA; Name: SN74LVC1G126DCKR; Symbol: SN74LVC1G126DCKR; Device: SN74LVC1G126DCKR; LCSC Part Name: SN74LVC1G126DCKR; Supplier Part: C88039; Manufacturer Part: SN74LVC1G126DCKR; Supplier Footprint: SC-70-5; JLCPCB Part Class: Extended Part; Datasheet: https://atta.szlcsc.com/upload/public/pdf/source/20181012/C88039_5769B6F1CE7E26397B908303919C8C98.pdf; Supplier: LCSC; Convert to PCB: yes; Type: 缓冲器，非反相; Input type: -; Current-OutputHigh: 32mA; Operating temperature: -40℃~+125℃
footprint SC-70-5_L2.1-W1.3-P0.65-LS2.1-BR
3D model SC-70-5_L2.1-W1.3-H1.0-LS2.1-P0.65
pins: 1 OE#, 2 A, 3 GND, 4 Y, 5 VCC

## U SN74LVC1G126DCKR
designator U?, comment SN74LVC1G126DCKR  (value not drawn)
Manufacturer: TI(德州仪器); Add into BOM: yes; Supply Voltage: 1.65V~5.5V; output type: 三态; Current-OutputLow: 32mA; Name: SN74LVC1G126DCKR; Symbol: SN74LVC1G126DCKR; Device: SN74LVC1G126DCKR; LCSC Part Name: SN74LVC1G126DCKR; Supplier Part: C88039; Manufacturer Part: SN74LVC1G126DCKR; Supplier Footprint: SC-70-5; JLCPCB Part Class: Extended Part; Datasheet: https://atta.szlcsc.com/upload/public/pdf/source/20181012/C88039_5769B6F1CE7E26397B908303919C8C98.pdf; Supplier: LCSC; Convert to PCB: yes; Type: 缓冲器，非反相; Input type: -; Current-OutputHigh: 32mA; Operating temperature: -40℃~+125℃
footprint SC-70-5_L2.1-W1.3-P0.65-LS2.1-BR
3D model SC-70-5_L2.1-W1.3-H1.0-LS2.1-P0.65
pins: 1 OE, 2 A, 3 GND, 4 Y, 5 VCC

## U STM32F103C6T6
designator U?
footprint LQFP_48
pins: 1 VBAT (power), 2 TAMPER-RTC/PC13 (io), 3 OSC32_IN/PC14 (io), 4 OSC32_OUT/PC15 (io), 5 (CANRX)/D2/PD0/OSC_IN (io), 6 (CANTX)/D3/PD1/OSC_OUT (io), 7 NRST (io), 8 VSSA (power), 9 VDDA (power), 10 PA0/WKUP/USART2_CTS/ADC12_IN0/T2CH1E (io), 11 PA1/USART2_RTS/ADC12_IN1/T2CH2 (io), 12 PA2/USART2_TX/ADC12_IN2/T2CH3 (io), 13 PA3/USART2_RX/ADC12_IN3/T2CH4 (io), 14 PA4/USART2_CK/SPI1_NSS/ADC12_IN4 (io), 15 PA5/SPI1_SCK/ADC12_IN5 (io), 16 PA6/SPI1_MISO/ADC12_IN6/T3CH1/(T1B) (io), 17 PA7/SPI1_MOSI/ADC12_IN7/T3CH2/(T1CH1N) (io), 18 PB0/ADC12_IN8/T3CH3/(T1CH2N) (io), 19 PB1/ADC12_IN9/T3CH4/(T1CH3N) (io), 20 PB2/BOOT1 (io), 21 PB10/USART3_TX/I2C2_SCL/(T2CH3) (io), 22 PB11/USART3_RX/I2C2_SDA/(T2CH4) (io), 23 VSS_1 (power), 24 VDD_1 (power), 25 PB12/USART3_CK/SPI2_NSS/I2C2_SMBAI/T1B (io), 26 PB13/USART3_CTS/SPI2_SCK/T1CH1N (io), 27 PB14/USART3_RTS/SPI2_MISO/T1CH2N (io), 28 PB15/SPI2_MOSI/T1CH3N (io), 29 PA8/USART1_CK/T1CH1/MCO (io), 30 PA9/USART1_TX/T1CH2 (io), 31 PA10/USART1_RX/T1CH3 (io), 32 PA11/USART1_CTS/CANRX/T1CH4/USBDM (io), 33 PA12/USART1_RTS/CANTX/T1E/USBDP (io), 34 JTMS/SWDIO/PA13 (io), 35 VSS_2 (power), 36 VDD_2 (power), 37 JTCK/SWCLK/PA14 (io), 38 JTDI/PA15/(T2Ch1E/SPI1_NSS) (io), 39 JTDO/PB3/TARCESWO/(T2CH2/SPI1_SCK) (io), 40 JNTRST/PB4/(T3CH1/SPI1_MISO) (io), 41 PB5/I2C1_SMBAI/(T3CH2/SPI1_MOSI) (io), 42 PB6/I2C1_SCL/T4CH1/(USART1_TX) (io), 43 PB7/I2C1_SDA/T4CH2/(USART1_RX) (io), 44 BOOT0, 45 PB8/T4CH3/(I2C1_SCL/CANRX) (io), 46 PB9/T4CH4/(I2C1_SDA/CANTX) (io), 47 VSS_3 (power), 48 VDD_3 (power)

## U STM32F334R8T6
designator U?, comment STM32F334R8T6  (value not drawn)
Manufacturer: ST(意法半导体); Add into BOM: yes; CPU Core: ARM Cortex-M4; Maximum Frequency: 72MHz; Supply Voltage Range: 2V~3.6V; Internal Oscillator: 有; Program FLASH Size: 64K@x8bit; RAM Size: 12KB; GPIO Ports Number: 51; ADC (Units/Channels/bits): 1@x21ch/12bit; DAC (Units/Channels/bits): 1@x3ch/12bit; Peripherals / Functions / Protocol Stacks: DMA；看门狗；POR；PWM; Name: STM32F334R8T6; Symbol: STM32F334R8T6; Device: STM32F334R8T6; LCSC Part Name: ARM Cortex-M4 72MHz 闪存：64K@x8bit RAM：12KB; Supplier Part: C80577; Manufacturer Part: STM32F334R8T6; Supplier Footprint: LQFP-64(10x10); JLCPCB Part Class: Extended Part; Datasheet: https://atta.szlcsc.com/upload/public/pdf/source/20170712/C80577_1499832474154814708.pdf; Supplier: LCSC; Convert to PCB: yes; EEPROM/Data FLASH Size: -; Operating Temperature Range: -40℃~+85℃
footprint LQFP-64_L10.0-W10.0-P0.50-LS12.0-BL
3D model LQFP-64_L10.0-W10.0-H1.4-LS12.0-P0.50
pins: 1 VBAT, 2 PC13, 3 PC14/OSC32_IN, 4 PC15/OSC32_OUT, 5 PF0/OSCIN, 6 PF1/OSCOUT, 7 NRST, 8 PC0, 9 PC1, 10 PC2, 11 PC3, 12 VSSA/VREF-, 13 VDDA/VREF+, 14 PA0, 15 PA1, 16 PA2, 17 PA3, 18 VSS, 19 VDD, 20 PA4, 21 PA5, 22 PA6, 23 PA7, 24 PC4, 25 PC5, 26 PB0, 27 PB1, 28 PB2, 29 PB10, 30 PB11, 31 VSS, 32 VDD, 33 PB12, 34 PB13, 35 PB14, 36 PB15, 37 PC6, 38 PC7, 39 PC8, 40 PC9, 41 PA8, 42 PA9, 43 PA10, 44 PA11, 45 PA12, 46 PA13, 47 VSS, 48 VDD, 49 PA14, 50 PA15, 51 PC10, 52 PC11, 53 PC12, 54 PD2, 55 PB3, 56 PB4, 57 PB5, 58 PB6, 59 PB7, 60 BOOT0, 61 PB8, 62 PB9, 63 VSS, 64 VDD

## U STM32F401RCT6
designator U?, comment STM32F401RCT6
BOM_Manufacturer: STMicroelectronics; BOM_Manufacturer Part: STM32F103RCT6; subpart_no: 1; BOM_Supplier: LCSC; BOM_Supplier Part: C8323; BOM_JLCPCB Part Class: Extended Part; spicePre: U; spiceSymbolName: STM32F103RCT6
footprint LQFP_64_M (Thin QFP, 64-Leads, Body 10x10mm, Pitch 0.5mm, IPC Low Density)
pins: 1 VBAT, 2 PC13-TAMPER-RTC, 3 PC14-OSC32_IN, 4 PC15-OSC32_OUT, 5 PH0-OSC_IN, 6 PH1-OSC_OUT, 7 NRST, 8 PC0, 9 PC1, 10 PC2, 11 PC3, 12 VSSA/Vref-, 13 VDDA/Vref+, 14 PA0-WKUP, 15 PA1, 16 PA2, 17 PA3, 18 VSS_4, 19 VDD_4, 20 PA4, 21 PA5, 22 PA6, 23 PA7, 24 PC4, 25 PC5, 26 PB0, 27 PB1, 28 PB2, 29 PB10, 30 V_cap1, 31 VSS_1, 32 VDD_1, 33 PB12, 34 PB13, 35 PB14, 36 PB15, 37 PC6, 38 PC7, 39 PC8, 40 PC9, 41 PA8, 42 PA9, 43 PA10, 44 PA11, 45 PA12, 46 PA13, 47 VSS_2, 48 VDD_2, 49 PA14, 50 PA15, 51 PC10, 52 PC11, 53 PC12, 54 PD2, 55 PB3, 56 PB4, 57 PB5, 58 PB6, 59 PB7, 60 BOOT0, 61 PB8, 62 PB9, 63 VSS_3, 64 VDD_3

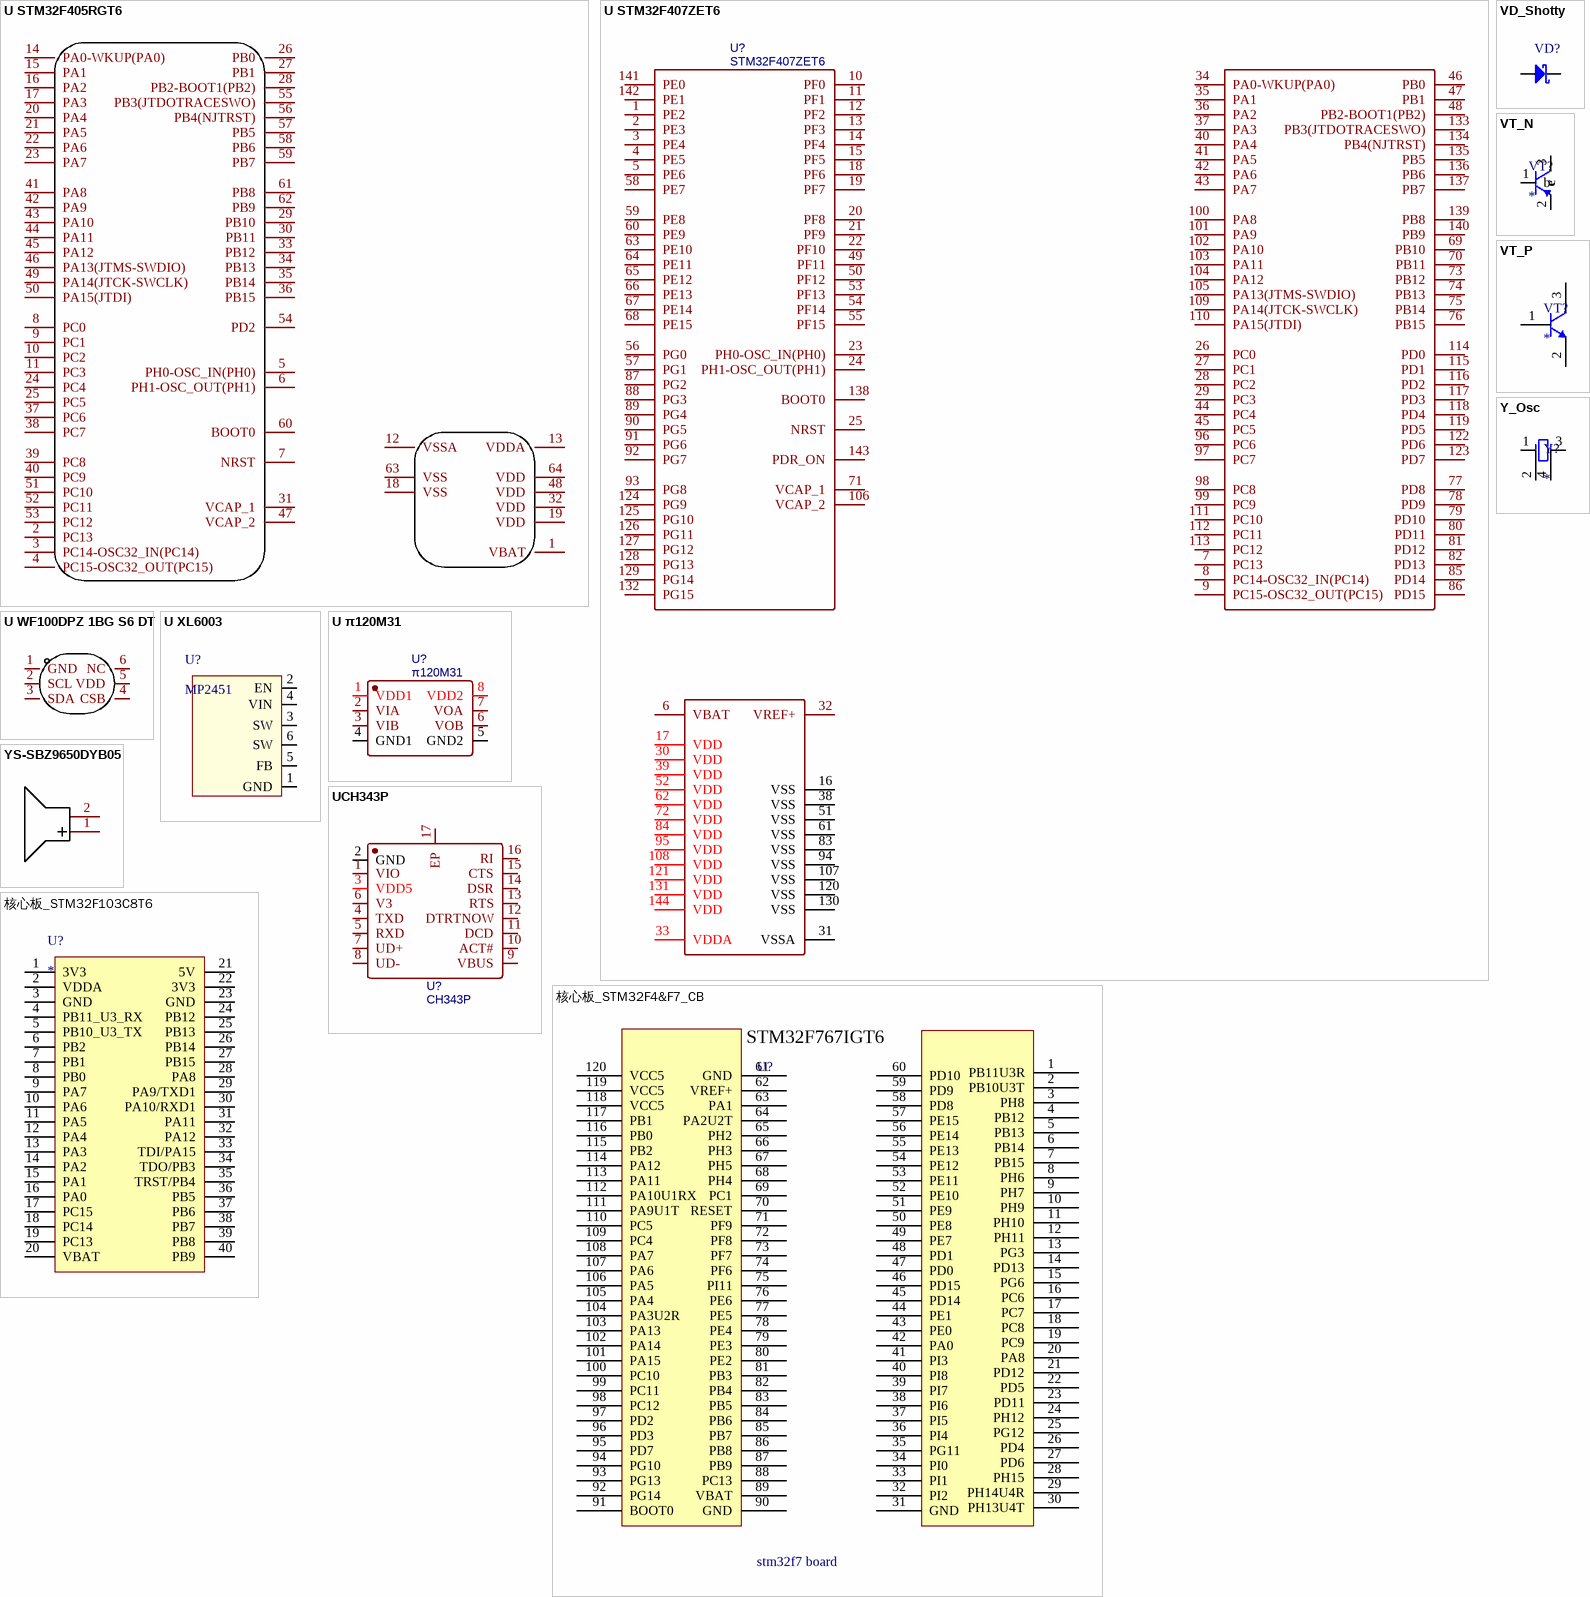
[diagram p3: symbols U STM32F405RGT6 to 核心板_STM32F103C8T6]

## U STM32F405RGT6
designator U?, comment STM32F405RGT6  (value not drawn)
Manufacturer: ST(意法半导体); Add into BOM: yes; CPU Core: ARM Cortex-M4; Maximum Frequency: 168MHz; Supply Voltage Range: 1.8V~3.6V; Internal Oscillator: 有; Program FLASH Size: 1MB; RAM Size: 192KB; GPIO Ports Number: 51; ADC (Units/Channels/bits): 1@x16ch/12bit; DAC (Units/Channels/bits): 1@x2ch/12bit; Peripherals / Functions / Protocol Stacks: DMA；LCD/LED驱动；PWM；看门狗; Name: STM32F405RGT6; Symbol: STM32F405RGT6; Device: STM32F405RGT6; LCSC Part Name: ARM Cortex-M4 168MHz 闪存：1MB RAM：192KB; Supplier Part: C15742; Manufacturer Part: STM32F405RGT6; Supplier Footprint: LQFP-64(10x10); JLCPCB Part Class: Extended Part; Datasheet: https://atta.szlcsc.com/upload/public/pdf/source/20140724/1457707160365.pdf; Supplier: LCSC; Convert to PCB: yes; EEPROM/Data FLASH Size: -; Operating Temperature Range: -40℃~+85℃
footprint LQFP-64_L10.0-W10.0-P0.50-LS12.0-BL
3D model LQFP-64_L10.0-W10.0-H1.4-LS12.0-P0.50
pins: 1 VBAT, 2 PC13, 3 PC14-OSC32_IN(PC14), 4 PC15-OSC32_OUT(PC15), 5 PH0-OSC_IN(PH0), 6 PH1-OSC_OUT(PH1), 7 NRST, 8 PC0, 9 PC1, 10 PC2, 11 PC3, 12 VSSA, 13 VDDA, 14 PA0-WKUP(PA0), 15 PA1, 16 PA2, 17 PA3, 18 VSS, 19 VDD, 20 PA4, 21 PA5, 22 PA6, 23 PA7, 24 PC4, 25 PC5, 26 PB0, 27 PB1, 28 PB2-BOOT1(PB2), 29 PB10, 30 PB11, 31 VCAP_1, 32 VDD, 33 PB12, 34 PB13, 35 PB14, 36 PB15, 37 PC6, 38 PC7, 39 PC8, 40 PC9, 41 PA8, 42 PA9, 43 PA10, 44 PA11, 45 PA12, 46 PA13(JTMS-SWDIO), 47 VCAP_2, 48 VDD, 49 PA14(JTCK-SWCLK), 50 PA15(JTDI), 51 PC10, 52 PC11, 53 PC12, 54 PD2, 55 PB3(JTDOTRACESWO), 56 PB4(NJTRST), 57 PB5, 58 PB6, 59 PB7, 60 BOOT0, 61 PB8, 62 PB9, 63 VSS, 64 VDD

## U STM32F407ZET6
designator U?, comment STM32F407ZET6
BOM_Manufacturer: ST; subpart_no: 2; tags: STM32; BOM_Supplier Part: C36869; BOM_Supplier: LCSC; BOM_Manufacturer Part: STM32F407ZET6; image: http://image.lceda.cn/szlcsc/C36869.jpg; BOM_JLCPCB Part Class: Extended Part; spicePre: U; spiceSymbolName: STM32F407ZET6
footprint LQFP-144_L20.0-W20.0-P0.50-LS22.0-BL
pins: 1 PE2, 2 PE3, 3 PE4, 4 PE5, 5 PE6, 6 VBAT, 7 PC13, 8 PC14-OSC32_IN(PC14), 9 PC15-OSC32_OUT(PC15), 10 PF0, 11 PF1, 12 PF2, 13 PF3, 14 PF4, 15 PF5, 16 VSS, 17 VDD, 18 PF6, 19 PF7, 20 PF8, 21 PF9, 22 PF10, 23 PH0-OSC_IN(PH0), 24 PH1-OSC_OUT(PH1), 25 NRST, 26 PC0, 27 PC1, 28 PC2, 29 PC3, 30 VDD, 31 VSSA, 32 VREF+, 33 VDDA, 34 PA0-WKUP(PA0), 35 PA1, 36 PA2, 37 PA3, 38 VSS, 39 VDD, 40 PA4, 41 PA5, 42 PA6, 43 PA7, 44 PC4, 45 PC5, 46 PB0, 47 PB1, 48 PB2-BOOT1(PB2), 49 PF11, 50 PF12, 51 VSS, 52 VDD, 53 PF13, 54 PF14, 55 PF15, 56 PG0, 57 PG1, 58 PE7, 59 PE8, 60 PE9, 61 VSS, 62 VDD, 63 PE10, 64 PE11, 65 PE12, 66 PE13, 67 PE14, 68 PE15, 69 PB10, 70 PB11, 71 VCAP_1, 72 VDD, 73 PB12, 74 PB13, 75 PB14, 76 PB15, 77 PD8, 78 PD9, 79 PD10, 80 PD11, 81 PD12, 82 PD13, 83 VSS, 84 VDD, 85 PD14, 86 PD15, 87 PG2, 88 PG3, 89 PG4, 90 PG5, 91 PG6, 92 PG7, 93 PG8, 94 VSS, 95 VDD, 96 PC6, 97 PC7, 98 PC8, 99 PC9, 100 PA8, 101 PA9, 102 PA10, 103 PA11, 104 PA12, 105 PA13(JTMS-SWDIO), 106 VCAP_2, 107 VSS, 108 VDD, 109 PA14(JTCK-SWCLK), 110 PA15(JTDI), 111 PC10, 112 PC11, 113 PC12, 114 PD0, 115 PD1, 116 PD2, 117 PD3, 118 PD4, 119 PD5, 120 VSS, 121 VDD, 122 PD6, 123 PD7, 124 PG9, 125 PG10, 126 PG11, 127 PG12, 128 PG13, 129 PG14, 130 VSS, 131 VDD, 132 PG15, 133 PB3(JTDOTRACESWO), 134 PB4(NJTRST), 135 PB5, 136 PB6, 137 PB7, 138 BOOT0, 139 PB8, 140 PB9, 141 PE0, 142 PE1, 143 PDR_ON, 144 VDD

## U WF100DPZ 1BG S6 DT
designator U?, comment WF100DPZ 1BG S6 DT  (value not drawn)
Manufacturer: WF(伟烽); Add into BOM: yes; Name: WF100DPZ 1BG S6 DT; Symbol: WF100DPZ 1BG S6 DT; Device: WF100DPZ 1BG S6 DT; LCSC Part Name: 数字传感器; Supplier Part: C3001182; Manufacturer Part: WF100DPZ 1BG S6 DT; Supplier Footprint: SOP-6-2.54; JLCPCB Part Class: Extended Part; Datasheet: https://atta.szlcsc.com/upload/public/pdf/source/20220509/5E03BF1028724AFA70121845BCF7D5D3.pdf; Supplier: LCSC; Convert to PCB: yes
footprint SOP-6_L7.0-W7.0-P2.54-LS10.6-BR
3D model SOP-6_L7.0-W7.0-P2.54-LS10.6-BR
pins: 1 GND, 2 SCL, 3 SDA, 4 CSB, 5 VDD, 6 NC

## U XL6003
designator U?, comment MP2451
footprint TO263-5A (263，5脚晶体管)
pins: 1 GND (power), 2 EN, 3 SW, 4 VIN, 5 FB, 6 SW

## U π120M31
designator U?, comment π120M31
BOM_Manufacturer: 2Pai Semi; Contributor: LCSC; BOM_Supplier: LCSC; BOM_Supplier Part: C471592; BOM_Manufacturer Part: π120M31; BOM_JLCPCB Part Class: Extended Part; spicePre: U; spiceSymbolName: π120M31
footprint SOIC-8_L4.9-W3.9-P1.27-LS6.0-BL
pins: 1 VDD1, 2 VIA, 3 VIB, 4 GND1, 5 GND2, 6 VOB, 7 VOA, 8 VDD2

## UCH343P
designator U?, comment CH343P
BOM_Manufacturer: WCH(南京沁恒); Contributor: LCSC; BOM_Supplier: LCSC; BOM_Supplier Part: C2846043; BOM_Manufacturer Part: CH343P; BOM_JLCPCB Part Class: Extended Part; spicePre: U; spiceSymbolName: CH343P
footprint TQFN-16_L3.0-W3.0-P0.50-BL-EP1.7
pins: 1 VIO, 2 GND, 3 VDD5, 4 TXD, 5 RXD, 6 V3, 7 UD+, 8 UD-, 9 VBUS, 10 ACT#, 11 DCD, 12 DTRTNOW, 13 RTS, 14 DSR, 15 CTS, 16 RI, 17 EP

## VD_Shotty
designator VD?
Schottky Rectifier; Note: Terminal 2 is the TAB and is electrically connected to the cathode; Published: 8-Jun-2000; LatestRevisionDate: 17-Jul-2002; LatestRevisionNote: Re-released for DXP Platform.; DatasheetVersion: PD-2.057B; PackageVersion: Feb-1998; PackageReference: TO-220AC; Publisher: Altium Limited; PackageDescription: TO, Thru-Hole, Vertical, Heatsink Mounted; 3 In-Line Leads (1 Absent); Pitch 2.54 mm; ComponentLink1Description: Manufacturer Link; ComponentLink1URL: http://www.irf.com/; ComponentLink2Description: Datasheet; ComponentLink2URL: http://www.irf.com/product-info/datasheets/data/10tq.pdf
footprint TO-220AC (TO, Thru-Hole, Vertical, Heatsink Mounted; 3 In-Line Leads (1 Absent); Pitch 2.54 mm)
pins: 1 -, 2 +

## VT_N
designator VT?
pins: 1 b "24V输入", 2 e "24V输入", 3 c "24V输入"

## VT_P
designator VT?
pins: 1 b "24V输入", 2 e "24V输入", 3 c "24V输入"

## Y_Osc
designator Y?
footprint XALT_3225
pins: 1 OSC1, 2, 3 OSC2, 4

## YS-SBZ9650DYB05
designator BUZZER?  (value not drawn)
Manufacturer: Fengming(锋鸣电子); Name: 2700Hz; Symbol: YS-SBZ9650DYB05_C409830; Add into BOM: yes; Oscillator Circuit: 有源(内含驱动线路); Rated Voltage: 5V; Operating Voltage: 3V~7V; Value: 2700Hz; Sound Pressure Level (SPL): 80dB@5V,10cm; Device: YS-SBZ9650DYB05; LCSC Part Name: 贴片有源蜂鸣器5V; Supplier Part: C409830; Manufacturer Part: YS-SBZ9650DYB05; Supplier Footprint: SMD; JLCPCB Part Class: Extended Part; Datasheet: https://atta.szlcsc.com/upload/public/pdf/source/20191217/C409830_8EC3C70066086F723D62F9967ED58A07.pdf; Supplier: LCSC; Convert to PCB: yes; Length: 9.6mm; Width: 9.6mm; Height: 5.3mm
footprint BUZ-SMD_L9.6-W9.6-LS10.0-R
3D model BUZ-SMD_L9.6-W9.6-H5.0
pins: 1 +, 2 -

## 核心板_STM32F4&F7_CB
designator U?, comment stm32f7 board
footprint STM32F4&F7_CB
pins: 1 PB11U3R, 2 PB10U3T, 3 PH8, 4 PB12, 5 PB13, 6 PB14, 7 PB15, 8 PH6, 9 PH7, 10 PH9, 11 PH10, 12 PH11, 13 PG3, 14 PD13, 15 PG6, 16 PC6, 17 PC7, 18 PC8, 19 PC9, 20 PA8, 21 PD12, 22 PD5, 23 PD11, 24 PH12, 25 PG12, 26 PD4, 27 PD6, 28 PH15, 29 PH14U4R, 30 PH13U4T, 31 GND, 32 PI2, 33 PI1, 34 PI0, 35 PG11, 36 PI4, 37 PI5, 38 PI6, 39 PI7, 40 PI8, 41 PI3, 42 PA0, 43 PE0, 44 PE1, 45 PD14, 46 PD15, 47 PD0, 48 PD1, 49 PE7, 50 PE8, 51 PE9, 52 PE10, 53 PE11, 54 PE12, 55 PE13, 56 PE14, 57 PE15, 58 PD8, 59 PD9, 60 PD10, 61 GND, 62 VREF+, 63 PA1, 64 PA2U2T, 65 PH2, 66 PH3, 67 PH5, 68 PH4, 69 PC1, 70 RESET, 71 PF9, 72 PF8, 73 PF7, 74 PF6, 75 PI11, 76 PE6, 77 PE5, 78 PE4, 79 PE3, 80 PE2, 81 PB3, 82 PB4, 83 PB5, 84 PB6, 85 PB7, 86 PB8, 87 PB9, 88 PC13, 89 VBAT, 90 GND, 91 BOOT0, 92 PG14, 93 PG13, 94 PG10, 95 PD7, 96 PD3, 97 PD2, 98 PC12, 99 PC11, 100 PC10, 101 PA15, 102 PA14, 103 PA13, 104 PA3U2R, 105 PA4, 106 PA5, 107 PA6, 108 PA7, 109 PC4, 110 PC5, 111 PA9U1T, 112 PA10U1RX, 113 PA11, 114 PA12, 115 PB2, 116 PB0, 117 PB1, 118 VCC5, 119 VCC5, 120 VCC5
text: STM32F767IGT6

## 核心板_STM32F103C8T6
designator U?
telesky家的STM32F103C8T6
pins: 1 3V3, 2 VDDA, 3 GND, 4 PB11_U3_RX, 5 PB10_U3_TX, 6 PB2, 7 PB1, 8 PB0, 9 PA7, 10 PA6, 11 PA5, 12 PA4, 13 PA3, 14 PA2, 15 PA1, 16 PA0, 17 PC15, 18 PC14, 19 PC13, 20 VBAT, 21 5V, 22 3V3, 23 GND, 24 PB12, 25 PB13, 26 PB14, 27 PB15, 28 PA8, 29 PA9/TXD1, 30 PA10/RXD1, 31 PA11, 32 PA12, 33 TDI/PA15, 34 TDO/PB3, 35 TRST/PB4, 36 PB5, 37 PB6, 38 PB7, 39 PB8, 40 PB9

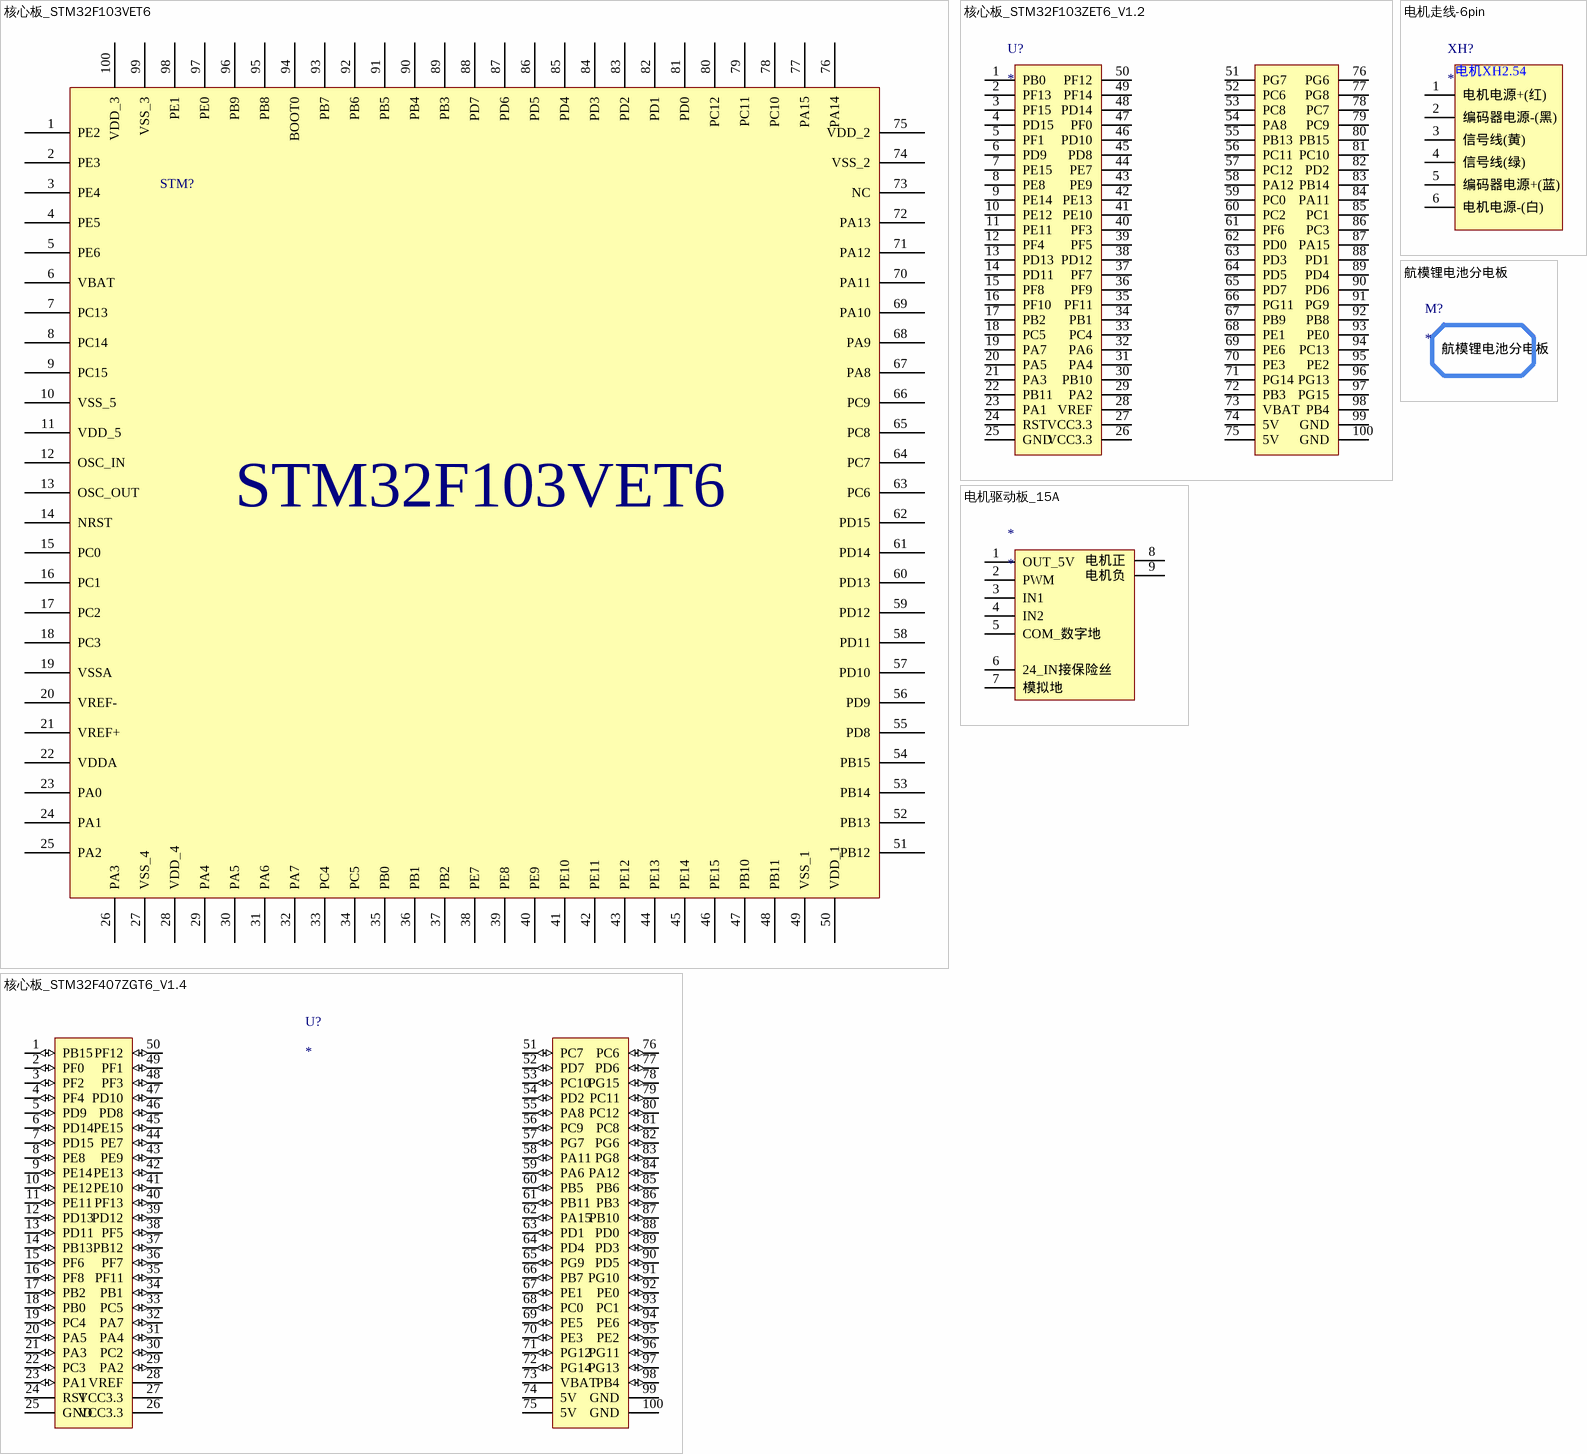
[diagram p4: symbols 核心板_STM32F103VET6 to 航模锂电池分电板]

## 核心板_STM32F103VET6
designator STM?, comment STM32F103VET6  (value not drawn)
芯片
footprint LQFP 100
pins: 1 PE2, 2 PE3, 3 PE4, 4 PE5, 5 PE6, 6 VBAT, 7 PC13, 8 PC14, 9 PC15, 10 VSS_5, 11 VDD_5, 12 OSC_IN, 13 OSC_OUT, 14 NRST, 15 PC0, 16 PC1, 17 PC2, 18 PC3, 19 VSSA, 20 VREF-, 21 VREF+, 22 VDDA, 23 PA0, 24 PA1, 25 PA2, 26 PA3, 27 VSS_4, 28 VDD_4, 29 PA4, 30 PA5, 31 PA6, 32 PA7, 33 PC4, 34 PC5, 35 PB0, 36 PB1, 37 PB2, 38 PE7, 39 PE8, 40 PE9, 41 PE10, 42 PE11, 43 PE12, 44 PE13, 45 PE14, 46 PE15, 47 PB10, 48 PB11, 49 VSS_1, 50 VDD_1, 51 PB12, 52 PB13, 53 PB14, 54 PB15, 55 PD8, 56 PD9, 57 PD10, 58 PD11, 59 PD12, 60 PD13, 61 PD14, 62 PD15, 63 PC6, 64 PC7, 65 PC8, 66 PC9, 67 PA8, 68 PA9, 69 PA10, 70 PA11, 71 PA12, 72 PA13, 73 NC, 74 VSS_2, 75 VDD_2, 76 PA14, 77 PA15, 78 PC10, 79 PC11, 80 PC12, 81 PD0, 82 PD1, 83 PD2, 84 PD3, 85 PD4, 86 PD5, 87 PD6, 88 PD7, 89 PB3, 90 PB4, 91 PB5, 92 PB6, 93 PB7, 94 BOOT0, 95 PB8, 96 PB9, 97 PE0, 98 PE1, 99 VSS_3, 100 VDD_3

## 核心板_STM32F103ZET6_V1.2
designator U?
正电原子 STM32F103zet6_V1.2
footprint 主控STM32F103ZET6
pins: 1 PB0, 2 PF13, 3 PF15, 4 PD15, 5 PF1, 6 PD9, 7 PE15, 8 PE8, 9 PE14, 10 PE12, 11 PE11, 12 PF4, 13 PD13, 14 PD11, 15 PF8, 16 PF10, 17 PB2, 18 PC5, 19 PA7, 20 PA5, 21 PA3, 22 PB11, 23 PA1, 24 RST, 25 GND, 26 VCC3.3, 27 VCC3.3, 28 VREF, 29 PA2, 30 PB10, 31 PA4, 32 PA6, 33 PC4, 34 PB1, 35 PF11, 36 PF9, 37 PF7, 38 PD12, 39 PF5, 40 PF3, 41 PE10, 42 PE13, 43 PE9, 44 PE7, 45 PD8, 46 PD10, 47 PF0, 48 PD14, 49 PF14, 50 PF12, 51 PG7, 52 PC6, 53 PC8, 54 PA8, 55 PB13, 56 PC11, 57 PC12, 58 PA12, 59 PC0, 60 PC2, 61 PF6, 62 PD0, 63 PD3, 64 PD5, 65 PD7, 66 PG11, 67 PB9, 68 PE1, 69 PE6, 70 PE3, 71 PG14, 72 PB3, 73 VBAT, 74 5V, 75 5V, 76 PG6, 77 PG8, 78 PC7, 79 PC9, 80 PB15, 81 PC10, 82 PD2, 83 PB14, 84 PA11, 85 PC1, 86 PC3, 87 PA15, 88 PD1, 89 PD4, 90 PD6, 91 PG9, 92 PB8, 93 PE0, 94 PC13, 95 PE2, 96 PG13, 97 PG15, 98 PB4, 99 GND, 100 GND

## 核心板_STM32F407ZGT6_V1.4
designator U?
模块
footprint 正点STM32F103ZET6 - v1.4 (V1.4)
pins: 1 PB15 (io), 2 PF0 (io), 3 PF2 (io), 4 PF4 (io), 5 PD9 (io), 6 PD14 (io), 7 PD15 (io), 8 PE8 (io), 9 PE14 (io), 10 PE12 (io), 11 PE11 (io), 12 PD13 (io), 13 PD11 (io), 14 PB13 (io), 15 PF6 (io), 16 PF8 (io), 17 PB2 (io), 18 PB0 (io), 19 PC4 (io), 20 PA5 (io), 21 PA3 (io), 22 PC3 (io), 23 PA1 (io), 24 RST, 25 GND, 26 VCC3.3, 27 VCC3.3, 28 VREF, 29 PA2 (io), 30 PC2 (io), 31 PA4 (io), 32 PA7 (io), 33 PC5 (io), 34 PB1 (io), 35 PF11 (io), 36 PF7 (io), 37 PB12 (io), 38 PF5 (io), 39 PD12 (io), 40 PF13 (io), 41 PE10 (io), 42 PE13 (io), 43 PE9 (io), 44 PE7 (io), 45 PE15 (io), 46 PD8 (io), 47 PD10 (io), 48 PF3 (io), 49 PF1 (io), 50 PF12 (io), 51 PC7 (io), 52 PD7 (io), 53 PC10 (io), 54 PD2 (io), 55 PA8 (io), 56 PC9 (io), 57 PG7 (io), 58 PA11 (io), 59 PA6 (io), 60 PB5 (io), 61 PB11 (io), 62 PA15 (io), 63 PD1 (io), 64 PD4 (io), 65 PG9 (io), 66 PB7 (io), 67 PE1 (io), 68 PC0 (io), 69 PE5 (io), 70 PE3 (io), 71 PG12 (io), 72 PG14 (io), 73 VBAT, 74 5V, 75 5V, 76 PC6 (io), 77 PD6 (io), 78 PG15 (io), 79 PC11 (io), 80 PC12 (io), 81 PC8 (io), 82 PG6 (io), 83 PG8 (io), 84 PA12 (io), 85 PB6 (io), 86 PB3 (io), 87 PB10 (io), 88 PD0 (io), 89 PD3 (io), 90 PD5 (io), 91 PG10 (io), 92 PE0 (io), 93 PC1 (io), 94 PE6 (io), 95 PE2 (io), 96 PG11 (io), 97 PG13 (io), 98 PB4 (io), 99 GND, 100 GND

## 电机走线-6pin
designator XH?
pins: 1 电机电源+(红), 2 编码器电源-(黑), 3 信号线(黄), 4 信号线(绿), 5 编码器电源+(蓝), 6 电机电源-(白)
text: 电机XH2.54

## 电机驱动板_15A
designator *
pins: 1 OUT_5V, 2 PWM, 3 IN1, 4 IN2, 5 COM_数字地, 6 24_IN接保险丝, 7 模拟地, 8 电机正, 9 电机负

## 航模锂电池分电板
designator M?
footprint Model Name (Footprint not found)